# Altium schematic symbol library Supernova Connectors.SchLib: 270 symbols (part 1 of 2)
Pins are listed as number, name and electrical type; pins without a type are passive.

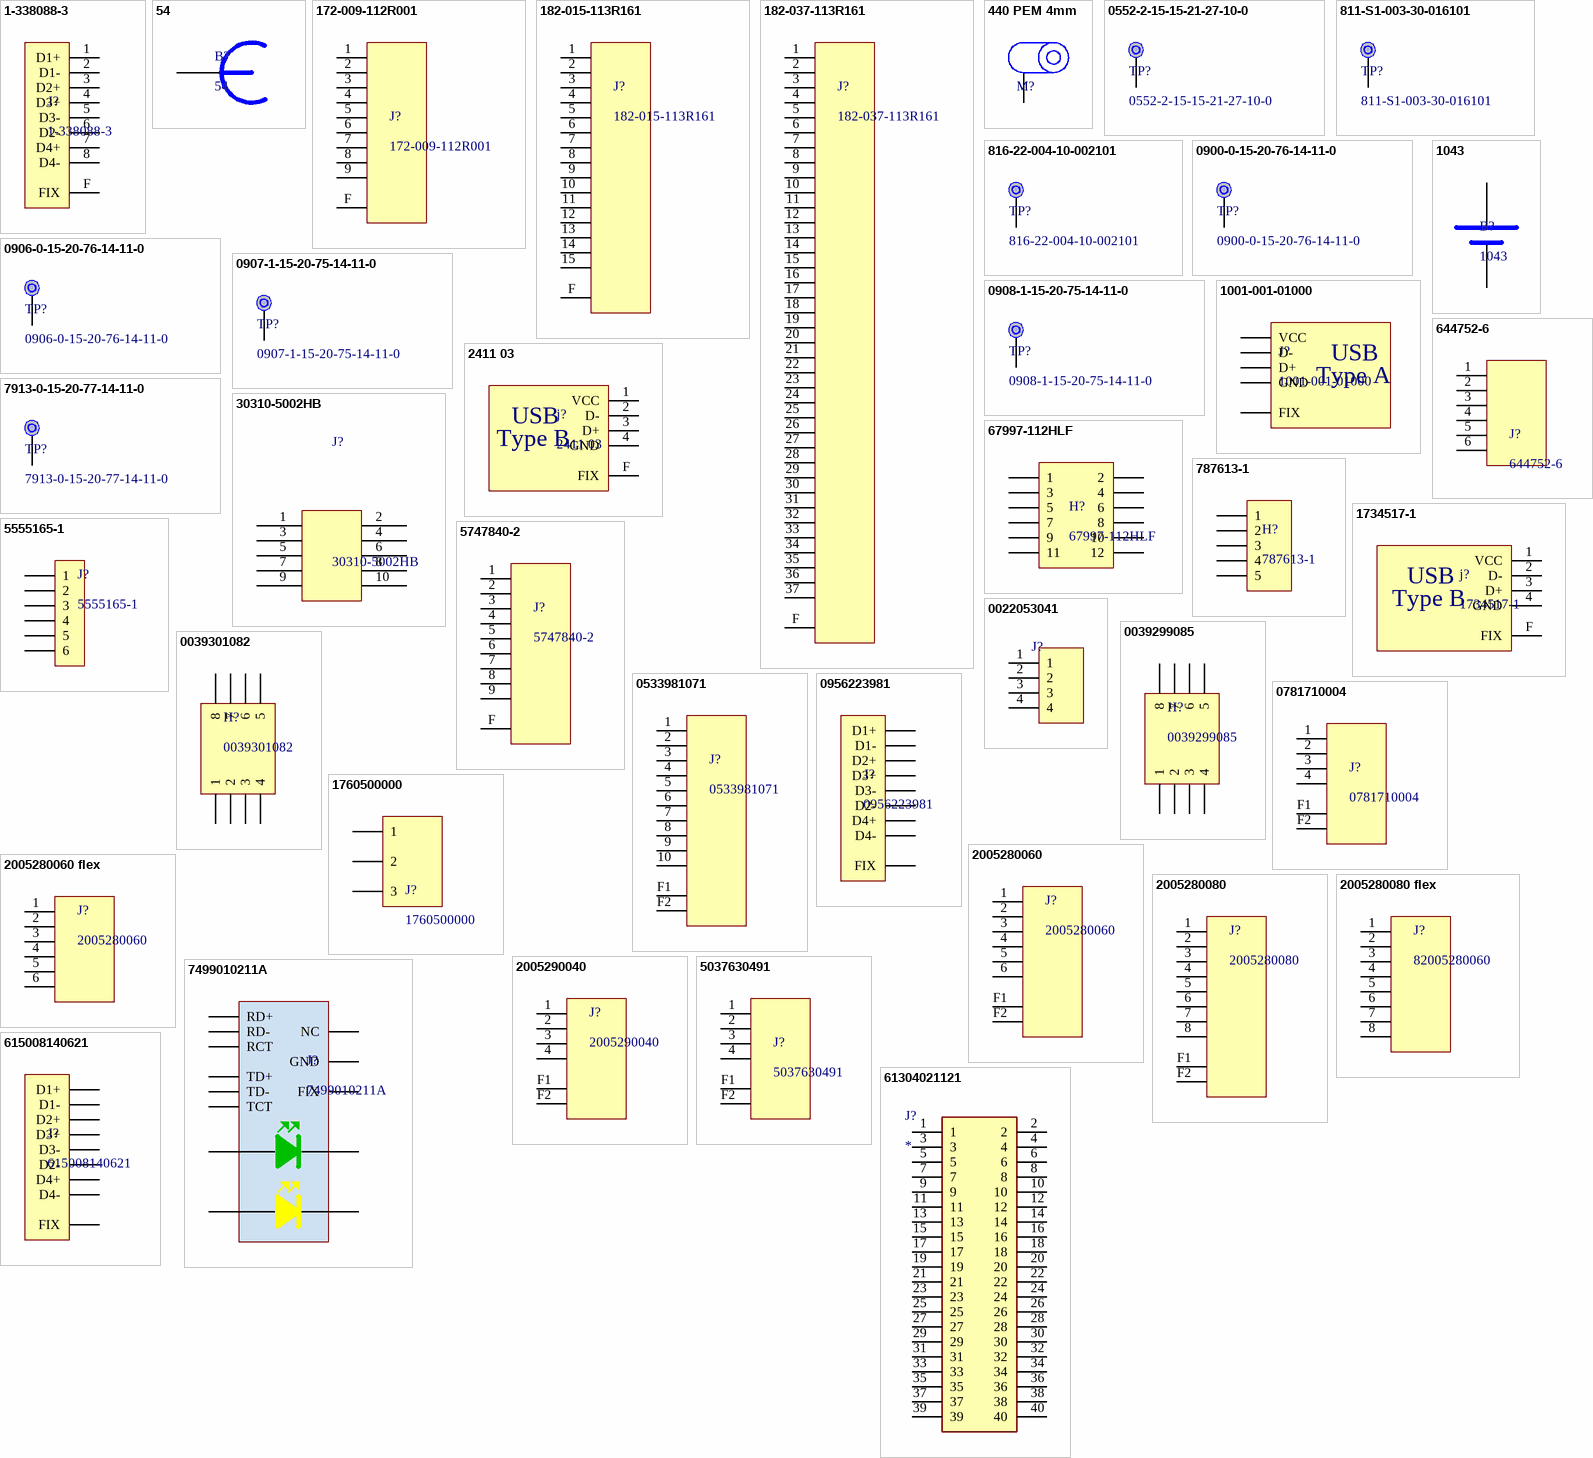
[diagram p0: symbols 1-338088-3 to 615008140621]

## 1-338088-3
designator J?
Header RJ45 No Magnetics Vertical SMD; Supplier 1: Digi-Key; Supplier Part Number 1: A99306CT-ND; Supplier 2: Digi-Key; Supplier Part Number 2: A98534CT-ND
footprint TE 1-338088-3
pins: 1 D1+, 2 D1-, 3 D2+, 4 D3+, 5 D3-, 6 D2-, 7 D4+, 8 D4-, F FIX

## 54
designator B?
Battery 18650 Clip; Supplier 1: Digi-Key; Supplier Part Number 1: 36-54-ND; Supplier 2: Mouser; Supplier Part Number 2: 534-54
footprint 18650 clip
pins: 1

## 172-009-112R001
designator J?
Header DB9 TH; System: Connector; Supplier 1: Digi-Key; Supplier Part Number 1: 1509MNA-ND; Supplier 2: Digi-Key; Supplier 3: Digi-Key; Supplier Part Number 2: AE10973-ND; Supplier Part Number 3: 1509MNEA-ND
footprint 172-009-112Ryy1
pins: 1, 2, 3 1, 4 1, 5 1, 6, 7, 8, 9, F

## 182-015-113R161
designator J?
Header DB15 TH RA; System: Connector; Supplier 1: Digi-Key; Supplier 2: Mouser; Supplier Part Number 1: 182-715ME-ND; Supplier Part Number 2: 636-182-015-113R161
footprint D-Sub-15
pins: 1, 2, 3, 4, 5, 6, 7, 8, 9, 10, 11, 12, 13, 14, 15, F

## 182-037-113R161
designator J?
Header DB37 TH RA; System: Connector; Supplier 1: Digi-Key; Supplier 2: Mouser; Supplier Part Number 1: 182-737ME-ND; Supplier Part Number 2: 636-182-037-113R161
footprint D-Sub-37
pins: 1, 2, 3, 4, 5, 6, 7, 8, 9, 10, 11, 12, 13, 14, 15, 16, 17, 18, 19, 20, 21, 22, 23, 24, 25, 26 13, 27, 28, 29, 30, 31, 32, 33, 34, 35, 36, 37, F

## 440 PEM 4mm
designator M?, comment #4-40 4mm  (value not drawn)
PEM, 440 4mm; System: Connector
footprint 440 PEM
pins: 1

## 0552-2-15-15-21-27-10-0
designator TP?
Testpoint Pin socket; System: Connector; Supplier 1: Digi-Key; Supplier Part Number 1: ED11345-ND; Supplier 2: Mouser; Supplier Part Number 2: 575-552215
footprint 0552-2-15-15-21-27-10-0 (Pin socket)
pins: 1

## 811-S1-003-30-016101
designator TP?
Testpoint Spring SMD x3; System: Connector; Supplier 1: Digi-Key; Supplier 2: Mouser; Supplier Part Number 1: 1212-1522-ND; Supplier Part Number 2: 437-811S100330016101
footprint Spring Testpoint x3 SMD
pins: 1

## 816-22-004-10-002101
designator TP?
Testpoint Spring x3; System: Connector; Supplier 1: Digi-Key; Supplier Part Number 1: ED10676-ND; Supplier 2: Digi-Key; Supplier Part Number 2: 811-S1-003-10-017101-ND
footprint Spring Testpoint x3
pins: 1

## 0900-0-15-20-76-14-11-0
designator TP?
Testpoint Spring SMD short; System: Connector; Supplier 1: Mouser; Supplier 2: Digi-Key; Supplier Part Number 1: 575-0900015207614110; Supplier Part Number 2: ED9000-ND
footprint Spring Testpoint SMD
pins: 1

## 0906-0-15-20-76-14-11-0
designator TP?
Testpoint Spring short; System: Connector; Supplier 1: Mouser; Supplier 2: Digi-Key; Supplier Part Number 1: 575-906015; Supplier Part Number 2: ED8180-ND
footprint Spring Testpoint - short
pins: 1

## 0907-1-15-20-75-14-11-0
designator TP?
Testpoint Spring SMD; System: Connector; Supplier 1: Mouser; Supplier 2: Digi-Key; Supplier Part Number 1: 575-907111; Supplier Part Number 2: ED5064-ND
footprint Spring Testpoint SMD
pins: 1

## 0908-1-15-20-75-14-11-0
designator TP?
Testpoint Spring; System: Connector; Supplier 1: Digi-Key; Supplier 2: Mouser; Supplier Part Number 1: ED90385-ND; Supplier Part Number 2: 575-0908115
footprint Spring Testpoint
pins: 1

## 1001-001-01000
designator J?
Header USB Type A; Supplier 1: Digi-Key; Supplier Part Number 1: 1175-1263-ND; Supplier 2: Digi-Key; Supplier Part Number 2: A31726-ND
footprint USB type A
pins: 1 VCC, 2 D-, 3 D+, 4 GND, F FIX
text: USB; Type A

## 1043
designator B?
Battery 18650 Holder; Supplier 1: Digi-Key; Supplier Part Number 1: 36-1043-ND; Supplier 2: Mouser; Supplier Part Number 2: 534-1043
footprint 1043
footprint 1043 - non-polar
pins: 1, 2

## 2411 03
designator j?
Header USB B TH RA; Supplier 1: Newark; Supplier Part Number 1: 31M6500; Supplier 2: Digi-Key; Supplier Part Number 2: 609-1039-ND
footprint USB-B-RA
pins: 1 VCC, 2 D-, 3 D+, 4 GND, F FIX
text: USB; Type B

## 7913-0-15-20-77-14-11-0
designator TP?
Testpoint Spring TH; System: Connector; Supplier 1: Digi-Key; Supplier Part Number 1: ED10398-ND; Supplier 2: Mouser; Supplier Part Number 2: 575-7913015207714110
footprint 7913-0-15-20-77-14-11-0 (Pin socket)
pins: 1

## 30310-5002HB
designator J?
Header 10 pin Box RA; System: Connector; Supplier 1: Digi-Key; Supplier 2: Digi-Key; Supplier Part Number 1: 3M15452-ND; Supplier Part Number 2: A33179-ND
footprint 2x5 Shrouded Box RA (2x5 Shrouded Box)
pins: 1, 2, 3, 4, 5, 6, 7, 8, 9, 10

## 67997-112HLF
designator H?
Header 6x2 TH; System: Connector; Supplier 1: Digi-Key; Supplier Part Number 1: 609-3227-ND; Supplier 2: Digi-Key; Supplier Part Number 2: SAM10851-ND
footprint 6x2 0.100" header
pins: 1, 2, 3, 4, 5, 6, 7, 8, 9, 10, 11, 12

## 644752-6
designator J?
Header MTA 6 pin; System: Connector; Supplier 1: Digi-Key; Supplier Part Number 1: A24168-ND; Supplier 2: Mouser; Supplier Part Number 2: 571-6447526
footprint 644752-6
pins: 1, 2, 3 1, 4 1, 5 1, 6

## 787613-1
designator H?
Header 5 Pin Blade Female; Supplier 1: Digi-Key; Supplier 2: Mouser; Supplier Part Number 1: 787613-1-ND; Supplier Part Number 2: 571-787613-1
footprint 787613-1
pins: 1, 2, 3, 4, 5

## 1734517-1
designator j?
Header USB B SMD; Supplier 1: Digi-Key; Supplier Part Number 1: A111053CT-ND; Supplier 2: Mouser; Supplier Part Number 2: 571-1734517-1
footprint TE 1734517-1
pins: 1 VCC, 2 D-, 3 D+, 4 GND, F FIX
text: USB; Type B

## 5555165-1
designator J?
Header RJ11 Right angle; Supplier 1: Digi-Key; Supplier Part Number 1: A31422-ND; Supplier 2: Digi-Key; Supplier Part Number 2: AE10383-ND
footprint 5555165-1
pins: 1, 2, 3, 4, 5, 6

## 5747840-2
designator J?
Header DB9 TH RA; Supplier 1: Digi-Key; Supplier Part Number 1: A32090-ND; Supplier 2: Mouser; Supplier Part Number 2: 571-5747840-2; System: *
footprint 5747840-2
pins: 1, 2, 3 1, 4 1, 5 1, 6, 7, 8, 9, F

## 0022053041
designator J?  (value not drawn)
Header 4POS .100 R/A TIN; System: Connector; Supplier 1: Digi-Key; Supplier 2: Digi-Key; Supplier Part Number 1: WM4302-ND; Supplier Part Number 2: WM10159-ND
footprint 4POS SMBUS Molex Inc. (CONN HEADER 4POS .100 R/A TIN 0022053041)
pins: 1, 2, 3, 4

## 0039299085
designator H?
Header 4x2 TH 4.2mm pitch; System: Connector; Supplier 1: Digi-Key; Supplier 2: Digi-Key; Supplier Part Number 1: WM2844-ND; Supplier Part Number 2: 23-0039299084-ND
footprint 0039299085
pins: 1, 2, 3, 4, 5, 6, 7, 8

## 0039301082
designator H?
Header 4x2 TH RA 4.2mm pitch; System: Connector; Supplier 1: Digi-Key; Supplier 2: Digi-Key; Supplier Part Number 1: WM21366-ND; Supplier Part Number 2: WM1366-ND
footprint 0039301082
pins: 1, 2, 3, 4, 5, 6, 7, 8

## 0533981071
designator J?
Header PicoBlade 10-Pin; System: Connector; Supplier 1: Digi-Key; Supplier 2: Mouser; Supplier Part Number 1: WM7614CT-ND; Supplier Part Number 2: 538-53398-1071
footprint 0533981071
pins: 1, 2, 3, 4, 5, 6, 7, 8, 9, 10, F1, F2

## 0781710004
designator J?
Header Pico-EZMate 4 pin; System: Connector; Supplier 1: Digi-Key; Supplier 2: Mouser; Supplier Part Number 2: 538-78171-0004; Supplier Part Number 1: WM4460CT-ND
footprint 0781710004
pins: 1, 2, 3 1, 4 1, F1 1, F2 1

## 0956223981
designator J?
Header RJ45 No Magnetics RA TH Tab=Down; Supplier 1: Digi-Key; Supplier Part Number 1: WM3653-ND; Supplier 2: Digi-Key; Supplier Part Number 2: AE10387-ND
footprint 956223981
pins: 1 D1+, 2 D1-, 3 D2+, 4 D3+, 5 D3-, 6 D2-, 7 D4+, 8 D4-, F FIX

## 1760500000
designator J?
Header Screw terminal 3 pins; Supplier 1: Digi-Key; Supplier 2: Digi-Key; Supplier Part Number 1: 281-2882-ND; Supplier Part Number 2: ED1976-ND
footprint ED500/3DS
pins: 1, 2, 3

## 2005280060
designator J?
Header Flex Connector 6 pin; top side; notched; System: Connector; Supplier 1: Digi-Key; Supplier Part Number 1: WM24188CT-ND; Supplier 2: Mouser; Supplier Part Number 2: 538-200528-0060
footprint 2005280060
pins: 1, 2 1, 3 1, 4 1, 5 2, 6 3, F1, F2

## 2005280060 flex
designator J?, comment 2005280060  (no BOM)
Flex Connector 4 pin; top side; notched; System: Connector
footprint 2005280060 mating flex
pins: 1, 2 1, 3 1, 4 1, 5 2, 6 3

## 2005280080
designator J?
Header Flex Connector 8 pin; top side; notched; System: Connector; Supplier 1: Mouser; Supplier Part Number 1: 538-200528-0080; Supplier 2: Digi-Key; Supplier Part Number 2: WM17815CT-ND
footprint 2005280080
pins: 1, 2 1, 3 1, 4 1, 5 2, 6 3, 7 2, 8 3, F1, F2

## 2005280080 flex
designator J?, comment 82005280060  (no BOM)
Flex Connector 8 pin; notched; System: Connector
footprint 2005280080 mating flex - SM Defined
footprint 2005280080 mating flex
pins: 1, 2 1, 3 1, 4 1, 5 2, 6 3, 7 2, 8 3

## 2005290040
designator J?
Header Flex Connector 4 pin; top side; notched; Supplier 1: Digi-Key; Supplier 2: Mouser; Supplier Part Number 1: WM24189CT-ND; Supplier Part Number 2: 538-200529-0040; System: Connector
footprint 2005290040
pins: 1, 2 1, 3 1, 4 1, F1, F2

## 5037630491
designator J?
Header Pico-Lock 4 pin; System: Connector; Supplier 1: Digi-Key; Supplier 2: Mouser; Supplier Part Number 1: WM10655CT-ND; Supplier Part Number 2: 538-503763-0491
footprint 5037630491
pins: 1, 2, 3 1, 4 1, F1, F2

## 7499010211A
designator J?
Header RJ45 with Magnetics RA TH Tab=Down; Supplier 1: Digi-Key; Supplier 2: Digi-Key; Supplier Part Number 1: 732-4506-5-ND; Supplier Part Number 2: 553-1619-5-ND
footprint 7499010211A
pins: 1 TD+, 2 TD-, 3 RD+, 4 TCT, 5 RCT, 6 RD-, 7 NC, 8 GND, 9, 10, 11, 12, F FIX

## 61304021121
designator J?
Connector; Manufacturer_Name: Wurth Elektronik; Manufacturer_Part_Number: 61304021121; Datasheet Link: https://katalog.we-online.com/em/datasheet/6130xx21121.pdf; Height: 8.69mm; Mouser Part Number: 710-61304021121; Mouser Price/Stock: https://www.mouser.co.uk/ProductDetail/Wurth-Elektronik/61304021121?qs=PhR8RmCirEYWKI5WqdDUyg%3D%3D
footprint HDRV40W64P254X254_2X20_5080X508X869P
pins: 1, 2, 3, 4, 5, 6, 7, 8, 9, 10, 11, 12, 13, 14, 15, 16, 17, 18, 19, 20, 21, 22, 23, 24, 25, 26, 27, 28, 29, 30, 31, 32, 33, 34, 35, 36, 37, 38, 39, 40

## 615008140621
designator J?
Header RJ45 No Magnetics RA TH Tab=Up; Supplier 1: Digi-Key; Supplier Part Number 1: 732-2742-ND; Supplier 2: Digi-Key; Supplier Part Number 2: RJHSE-5480-ND
footprint RJ45 No Mag
pins: 1 D1+, 2 D1-, 3 D2+, 4 D3+, 5 D3-, 6 D2-, 7 D4+, 8 D4-, F FIX

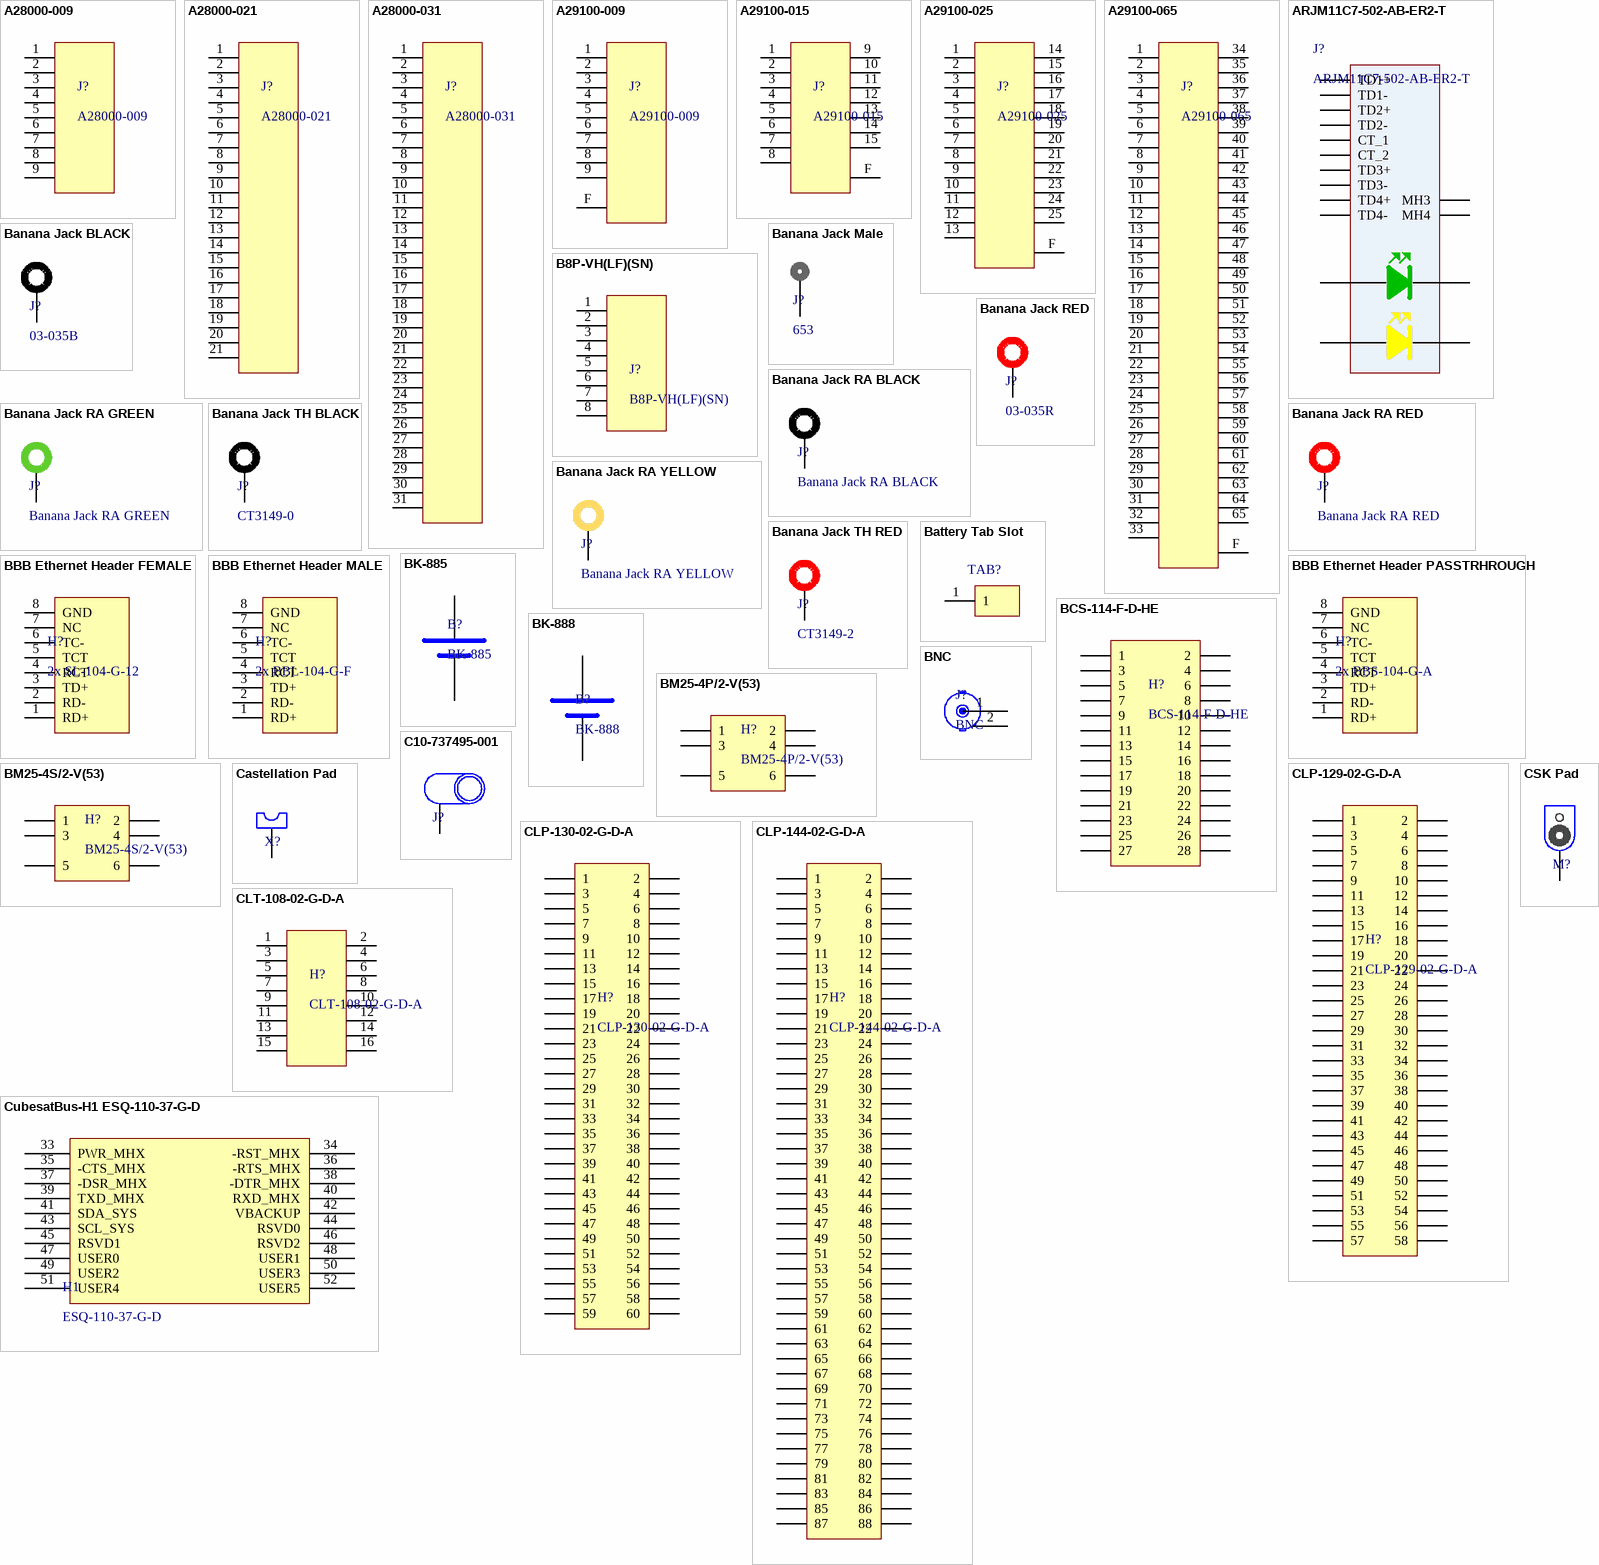
[diagram p1: symbols A28000-009 to CubesatBus-H1 ESQ-110-37-G-D]

## A28000-009
designator J?
Connector Omnetics Bi-Lobe 9 pins
pins: 1, 2, 3 1, 4 1, 5 1, 6 1, 7 1, 8 1, 9 1

## A28000-021
designator J?
Connector Omnetics Bi-Lobe 21 pins
pins: 1, 2, 3 1, 4 1, 5 1, 6 1, 7 1, 8 1, 9 1, 10 1, 11 1, 12 1, 13 1, 14 1, 15 2, 16 3, 17 4, 18 5, 19 6, 20 7, 21 8

## A28000-031
designator J?
Connector Omnetics Bi-Lobe 31 pins
pins: 1, 2, 3 1, 4 1, 5 1, 6 1, 7 1, 8 1, 9 1, 10 1, 11 1, 12 1, 13 1, 14 1, 15 2, 16 3, 17 4, 18 5, 19 6, 20 7, 21 8, 22 9, 23 10, 24 11, 25 12, 26 13, 27 14, 28 15, 29 16, 30 17, 31 18

## A29100-009
designator J?
Header Omnetics A29100-009; System: Connector; Manufacturer 1: Omnetics; Manufacturer Part Number 1: A29100-009; Supplier 1: Omnetics; Supplier Part Number 1: A29100-009; Supplier Pricing 1: 110.00
footprint A29100-009
pins: 1, 2, 3 1, 4 1, 5 1, 6, 7, 8, 9, F

## A29100-015
designator J?
Header Omnetics A29100-015; System: Connector; Manufacturer 1: Omnetics; Manufacturer Part Number 1: A29100-015; Supplier 1: Omnetics; Supplier Part Number 1: A29100-015; Supplier Pricing 1: 110.00
footprint A29100-015
pins: 1, 2, 3 1, 4 1, 5 1, 6, 7, 8, 9, 10, 11, 12, 13, 14, 15, F

## A29100-025
designator J?
Header Omnetics A29100-025; System: Connector; Manufacturer 1: Omnetics; Manufacturer Part Number 1: A29100-025; Supplier 1: Omnetics; Supplier Part Number 1: A29100-025; Supplier Pricing 1: 110.00
footprint A29100-025
pins: 1, 2, 3 1, 4 1, 5 1, 6, 7, 8, 9, 10, 11, 12, 13, 14, 15, 16, 17, 18, 19, 20, 21, 22, 23, 24, 25, F

## A29100-065
designator J?
Header Omnetics A29100-065; System: Connector; Manufacturer 1: Omnetics; Manufacturer Part Number 1: A29100-065; Supplier 1: Omnetics; Supplier Part Number 1: A29100-065; Supplier Pricing 1: 110.00
footprint A29100-065
pins: 1, 2, 3 1, 4 1, 5 1, 6, 7, 8, 9, 10, 11, 12, 13, 14, 15, 16, 17, 18, 19, 20, 21, 22, 23, 24, 25, 26, 27, 28, 29, 30, 31, 32, 33, 34, 35, 36, 37, 38, 39, 40, 41, 42, 43, 44, 45, 46, 47, 48, 49, 50, 51, 52, 53, 54, 55, 56, 57, 58, 59, 60, 61, 62, 63, 64, 65, F

## ARJM11C7-502-AB-ER2-T
designator J?
RJ45 JACK W/MAG 1X1 1000BASE-T; Manufacturer_Name: ABRACON; Datasheet Link: https://abracon.com/Magnetics/ARJM11.pdf; Height: 13.7mm; Manufacturer_Part_Number: ARJM11C7-502-AB-ER2-T; Mouser Part Number: 815-RJM11C7502ABER2T; Mouser Price/Stock: https://www.mouser.co.uk/ProductDetail/ABRACON/ARJM11C7-502-AB-ER2-T?qs=YCa%2FAAYMW01Li4L1TO4qtw%3D%3D; Arrow Part Number: ARJM11C7-502-AB-ER2-T; Arrow Price/Stock: https://www.arrow.com/en/products/arjm11c7-502-ab-er2-t/abracon?region=nac; Supplier 1: Digi-Key; Supplier 2: Mouser; Supplier Part Number 1: 535-14130-6-ND; Supplier Part Number 2: 815-RJM11C7502ABER2T
footprint ARJM11C7502ABER2T
pins: MH3, MH4, P1 TD1+, P2 TD1-, P3 TD2+, P4 TD2-, P5 CT_1, P6 CT_2, P7 TD3+, P8 TD3-, P9 TD4+, P10 TD4-, P11, P12, P13, P14

## B8P-VH(LF)(SN)
designator J?
Header VH 8 pin; System: Connector; Supplier 1: Digi-Key; Supplier Part Number 1: 455-1645-ND
footprint B8P-VH(LF)(SN)
pins: 1, 2, 3 1, 4 1, 5 1, 6, 7, 8

## Banana Jack BLACK
designator J?, comment 03-035B
Banana Jack Vertical BLACK; Manufacturer 1: Jameco Benchpro; Supplier 1: Jameco; Supplier Part Number 1: 2244439; Manufacturer Part Number 1: 03-035B; Supplier Pricing 1: 1.19
footprint Banana Jack BLACK
pins: 1

## Banana Jack Male
designator J?, comment 653
Banana Jack MALE; Supplier 1: Digi-Key; Supplier 2: Mouser; Supplier Part Number 1: 36-653-ND; Supplier Part Number 2: 534-653
footprint Banana Jack MALE
pins: 1

## Banana Jack RA BLACK
designator J?
Supplier 1: Digi-Key; Supplier Part Number 1: BKCT3151SP-0-ND; Supplier 2: Mouser; Supplier Part Number 2: 510-CT3151SP-0
footprint BANANA RA BLACK
pins: 1

## Banana Jack RA GREEN
designator J?
Supplier 1: Digi-Key; Supplier Part Number 1: BKCT3151SP-5-ND
footprint BANANA RA GREEN
pins: 1

## Banana Jack RA RED
designator J?
Supplier 1: Digi-Key; Supplier Part Number 1: BKCT3151SP-2-ND; Supplier 2: Mouser; Supplier Part Number 2: 510-CT3151SP-2
footprint BANANA RA RED
pins: 1

## Banana Jack RA YELLOW
designator J?
Supplier 1: Digi-Key; Supplier Part Number 1: BKCT3151SP-4-ND
footprint BANANA RA YELLOW
pins: 1

## Banana Jack RED
designator J?, comment 03-035R
Banana Jack Vertical RED; Manufacturer 1: Jameco Benchpro; Supplier 1: Jameco; Supplier Part Number 1: 2244447; Manufacturer Part Number 1: 03-035R; Supplier Pricing 1: 1.19
footprint Banana Jack RED
pins: 1

## Banana Jack TH BLACK
designator J?, comment CT3149-0
Banana Jack Vertical TH BLACK; Supplier 1: Digi-Key; Supplier Part Number 1: BKCT3149-0-ND; Supplier 2: Mouser; Supplier Part Number 2: 510-CT3149-0
footprint Banana Jack TH BLACK
pins: 1

## Banana Jack TH RED
designator J?, comment CT3149-2
Banana Jack Vertical TH RED; Supplier 1: Digi-Key; Supplier Part Number 1: BKCT3149-2-ND; Supplier 2: Mouser; Supplier Part Number 2: 510-CT3149-2
footprint Banana Jack TH RED
pins: 1

## Battery Tab Slot
designator TAB?, comment Battery Tab Pad  (value not drawn)  (no BOM)
Battery tab slot
footprint Battery Tab Pad (Slot - 1mm x 6mm)
footprint Battery Tab Slot (Slot - 1.5mm x 7.25mm)
footprint Battery Tab Pad with slot (Slot - 1mm x 6mm)
pins: 1

## BBB Ethernet Header FEMALE
designator H?, comment 2x SL-104-G-12
Header for BBB Ethernet; System: Connector; Quantity: 2; Supplier 1: Digi-Key; Supplier 2: Newark; Supplier Part Number 1: SAM1104-08-ND; Supplier Part Number 2: 11P6617
footprint Ethernet Header FEMALE
pins: 1 RD+, 2 RD-, 3 TD+, 4 RCT, 5 TCT, 6 TC-, 7 NC, 8 GND

## BBB Ethernet Header MALE
designator H?, comment 2x BBL-104-G-F
Header for BBB Ethernet; System: Connector; Supplier 1: Newark; Supplier 2: Digi-Key; Supplier Part Number 1: 11P3037; Supplier Part Number 2: SAM1001-08-ND
footprint Ethernet Header MALE
pins: 1 RD+, 2 RD-, 3 TD+, 4 RCT, 5 TCT, 6 TC-, 7 NC, 8 GND

## BBB Ethernet Header PASSTRHROUGH
designator H?, comment 2x BBS-104-G-A
Header for BBB Ethernet; System: Connector; Supplier 1: Digi-Key; Supplier 2: Newark; Supplier Part Number 1: SAM1004-08-ND; Supplier Part Number 2: 11P3149
footprint Ethernet Header PASSTHROUGH
pins: 1 RD+, 2 RD-, 3 TD+, 4 RCT, 5 TCT, 6 TC-, 7 NC, 8 GND

## BCS-114-F-D-HE
designator H?
Header 14x2 TH RA; System: Connector; Supplier 1: Digi-Key; Supplier Part Number 1: BCS-114-F-D-HE-ND; Supplier 2: Digi-Key; Supplier 3: Newark; Supplier 4: Digi-Key; Supplier Part Number 2: BCS-114-LM-D-HE-ND; Supplier Part Number 3: 87P2270; Supplier Part Number 4: BCS-114-S-D-HE-ND
footprint BCS-114-F-D-HE
pins: 1, 2, 3, 4, 5, 6, 7, 8, 9, 10, 11, 12, 13, 14, 15, 16, 17, 18, 19, 20, 21, 22, 23, 24, 25, 26, 27, 28

## BK-885
designator B?
Battery 1216 Holder; Supplier 1: Digi-Key; Supplier Part Number 1: BK-885-ND; Supplier 2: Digi-Key; Supplier 3: Digi-Key; Supplier Part Number 2: BK-885-CT-ND; Supplier Part Number 3: 36-3000CT-ND
footprint 1216 Battery Holder
pins: 1, 2

## BK-888
designator B?
Battery 20xx Holder; Supplier 1: Digi-Key; Supplier 2: Digi-Key; Supplier Part Number 1: BK-888-ND; Supplier Part Number 2: 36-3003-ND
footprint BK-888
pins: 1, 2

## BM25-4P/2-V(53)
designator H?
Header 6 pin micro; 2 power; 4 signal; System: Connector; Supplier 1: Digi-Key; Supplier 2: Mouser; Supplier Part Number 2: 798-BM25-4P/2-V53; Supplier Part Number 1: H124948CT-ND
footprint BM25-4P/2-V(53)
pins: 1, 2, 3, 4, 5, 6

## BM25-4S/2-V(53)
designator H?
Header 6 pin micro; 2 power; 4 signal; System: Connector; Supplier 1: Digi-Key; Supplier 2: Mouser; Supplier Part Number 1: H124947CT-ND; Supplier Part Number 2: 798-BM25-4S/2-V53
footprint BM25-4S/2-V(53)
pins: 1, 2, 3, 4, 5, 6

## BNC
designator J?
Header BNC Board Edge; Supplier 1: Digi-Key; Supplier 2: Digi-Key; Supplier Part Number 1: WM5524-ND; Supplier Part Number 2: WM5281-ND
footprint 5414373-1 (BNC Connector)
pins: 1 7, 2 7

## C10-737495-001
designator J?  (value not drawn)
Radsert 3.5mm female SMD; Supplier 1: Digi-Key; Supplier 2: Mouser; Supplier Part Number 1: 10-737495-001-ND; Supplier Part Number 2: 654-10-737495-001
footprint C10-737495-001
pins: 1

## Castellation Pad
designator X?  (value not drawn)  (no BOM)
Castellation Pad; System: Connector
footprint castellation pad 50mil
pins: 1

## CLP-129-02-G-D-A
designator H?
Header 58 Pin CLP; System: Connector; Supplier 1: Digi-Key; Supplier 2: Digi-Key; Supplier 3: Digi-Key; Supplier Part Number 1: CLP-129-02-G-D-A-ND; Supplier Part Number 2: CLP-129-02-G-D-A-K-ND; Supplier Part Number 3: CLP-129-02-L-D-A-ND
footprint CLP-129-02-G-D-A
pins: 1, 2, 3, 4, 5, 6, 7, 8, 9, 10, 11, 12, 13, 14, 15, 16, 17, 18, 19, 20, 21, 22, 23, 24, 25, 26, 27, 28, 29, 30, 31, 32, 33, 34, 35, 36, 37, 38, 39, 40, 41, 42, 43, 44, 45, 46, 47, 48, 49, 50, 51, 52, 53, 54, 55, 56, 57, 58

## CLP-130-02-G-D-A
designator H?
Header 60 Pin CLP; System: Connector; Supplier 1: Digi-Key; Supplier 2: Mouser; Supplier Part Number 1: SAM12494-ND; Supplier Part Number 2: 200-CLP13002GDA
footprint CLP-130-02-G-D-A
pins: 1, 2, 3, 4, 5, 6, 7, 8, 9, 10, 11, 12, 13, 14, 15, 16, 17, 18, 19, 20, 21, 22, 23, 24, 25, 26, 27, 28, 29, 30, 31, 32, 33, 34, 35, 36, 37, 38, 39, 40, 41, 42, 43, 44, 45, 46, 47, 48, 49, 50, 51, 52, 53, 54, 55, 56, 57, 58, 59, 60

## CLP-144-02-G-D-A
designator H?
Header 88 Pin CLP; System: Connector; Supplier 1: Digi-Key; Supplier 2: Digi-Key; Supplier Part Number 1: CLP-144-02-G-D-A-ND; Supplier Part Number 2: CLP-144-02-F-D-A-ND
footprint CLP-144-02-G-D-A
pins: 1, 2, 3, 4, 5, 6, 7, 8, 9, 10, 11, 12, 13, 14, 15, 16, 17, 18, 19, 20, 21, 22, 23, 24, 25, 26, 27, 28, 29, 30, 31, 32, 33, 34, 35, 36, 37, 38, 39, 40, 41, 42, 43, 44, 45, 46, 47, 48, 49, 50, 51, 52, 53, 54, 55, 56, 57, 58, 59, 60, 61, 62, 63, 64, 65, 66, 67, 68, 69, 70, 71, 72, 73, 74, 75, 76, 77, 78, 79, 80, 81, 82, 83, 84, 85, 86, 87, 88

## CLT-108-02-G-D-A
designator H?
Header 8x2 Thru Board; System: Connector; Supplier 1: Digi-Key; Supplier 2: Digi-Key; Supplier 3: Digi-Key; Supplier Part Number 1: SAM11024-ND; Supplier Part Number 2: CLT-108-02-G-D-A-K-ND; Supplier Part Number 3: CLT-108-02-G-D-A-P-ND
footprint CLT-108-02-G-D-A
pins: 1, 2, 3, 4, 5, 6, 7, 8, 9, 10, 11 1, 12, 13, 14, 15, 16

## CSK Pad
designator M?, comment CSK Mouting Hole M3  (value not drawn)  (no BOM)
Mounting Hole CSK
footprint CSK Pad
footprint CSK Odd Pad
footprint CSK Pad 100mil dual
footprint CSK Pad 150mil dual
pins: 1

## CubesatBus-H1 ESQ-110-37-G-D
designator H1, comment ESQ-110-37-G-D
Header PC/104 20-pin; System: Connector; Supplier 1: Digi-Key; Supplier Part Number 1: ESQ-110-37-G-D-ND; Supplier 2: Newark; Supplier Part Number 2: 91P9697
footprint ESQ-110-37-G-D 33-52 (ESQ-126-37-G-D Samtech 52-pin connector)
pins: 33 PWR_MHX, 34 -RST_MHX, 35 -CTS_MHX, 36 -RTS_MHX, 37 -DSR_MHX, 38 -DTR_MHX, 39 TXD_MHX, 40 RXD_MHX, 41 SDA_SYS, 42 VBACKUP, 43 SCL_SYS, 44 RSVD0, 45 RSVD1, 46 RSVD2, 47 USER0, 48 USER1, 49 USER2, 50 USER3, 51 USER4, 52 USER5

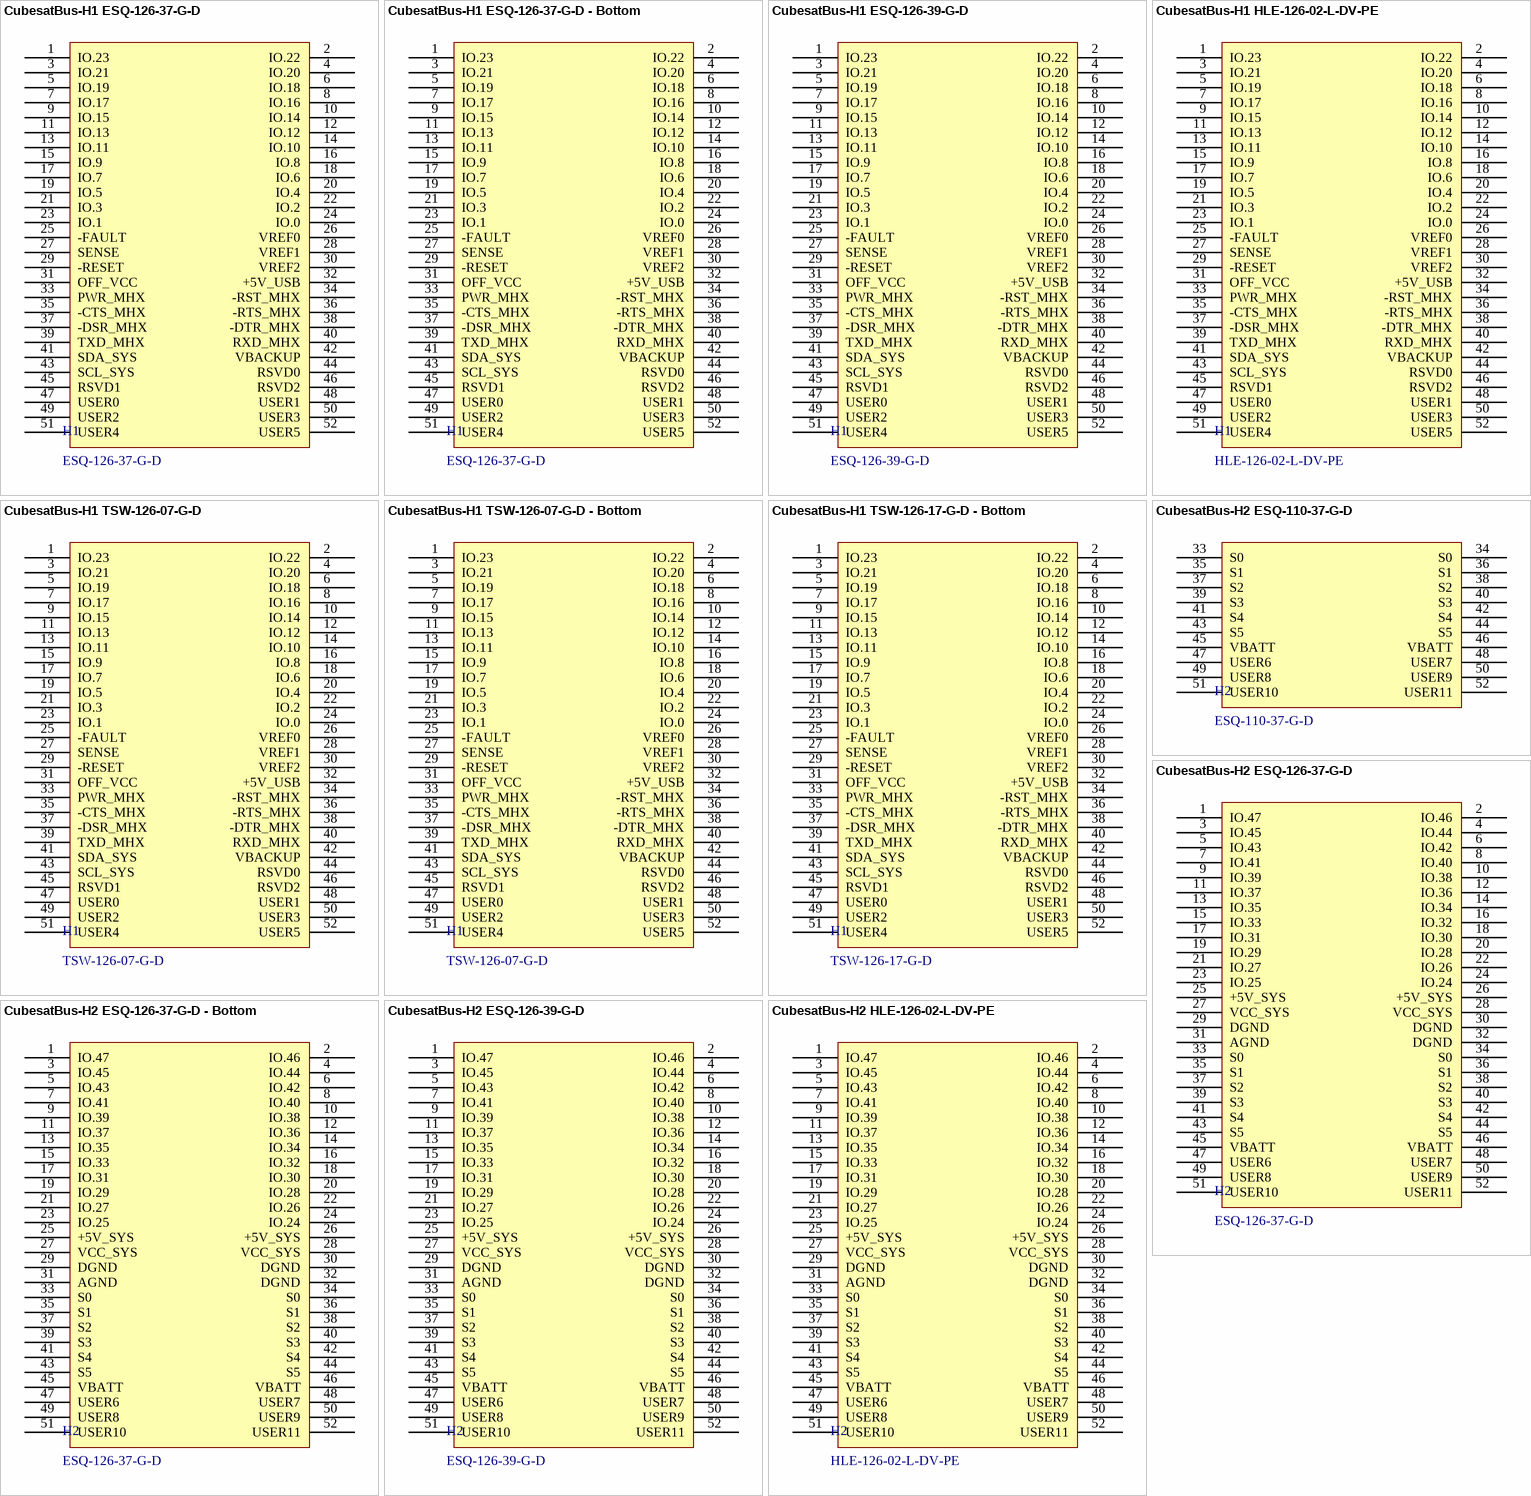
[diagram p2: symbols CubesatBus-H1 ESQ-126-37-G-D to CubesatBus-H2 HLE-126-02-L-DV-PE]

## CubesatBus-H1 ESQ-126-37-G-D
designator H1, comment ESQ-126-37-G-D
Header PC/104 52-pin; System: Connector; Supplier 1: Digi-Key; Supplier Part Number 1: SAM9323-ND; Supplier 2: Newark; Supplier Part Number 2: 92P1369
footprint ESQ-126-37-G-D (ESQ-126-37-G-D Samtech 52-pin connector)
pins: 1 IO.23, 2 IO.22, 3 IO.21, 4 IO.20, 5 IO.19, 6 IO.18, 7 IO.17, 8 IO.16, 9 IO.15, 10 IO.14, 11 IO.13, 12 IO.12, 13 IO.11, 14 IO.10, 15 IO.9, 16 IO.8, 17 IO.7, 18 IO.6, 19 IO.5, 20 IO.4, 21 IO.3, 22 IO.2, 23 IO.1, 24 IO.0, 25 -FAULT, 26 VREF0, 27 SENSE, 28 VREF1, 29 -RESET, 30 VREF2, 31 OFF_VCC, 32 +5V_USB, 33 PWR_MHX, 34 -RST_MHX, 35 -CTS_MHX, 36 -RTS_MHX, 37 -DSR_MHX, 38 -DTR_MHX, 39 TXD_MHX, 40 RXD_MHX, 41 SDA_SYS, 42 VBACKUP, 43 SCL_SYS, 44 RSVD0, 45 RSVD1, 46 RSVD2, 47 USER0, 48 USER1, 49 USER2, 50 USER3, 51 USER4, 52 USER5

## CubesatBus-H1 ESQ-126-37-G-D - Bottom
designator H1, comment ESQ-126-37-G-D
Header PC/104 52-pin; System: Connector; Supplier 1: Digi-Key; Supplier Part Number 1: SAM9323-ND; Supplier 2: Newark; Supplier Part Number 2: 92P1369
footprint ESQ-126-37-G-D - bottom (ESQ-126-37-G-D Samtech 52-pin connector)
pins: 1 IO.23, 2 IO.22, 3 IO.21, 4 IO.20, 5 IO.19, 6 IO.18, 7 IO.17, 8 IO.16, 9 IO.15, 10 IO.14, 11 IO.13, 12 IO.12, 13 IO.11, 14 IO.10, 15 IO.9, 16 IO.8, 17 IO.7, 18 IO.6, 19 IO.5, 20 IO.4, 21 IO.3, 22 IO.2, 23 IO.1, 24 IO.0, 25 -FAULT, 26 VREF0, 27 SENSE, 28 VREF1, 29 -RESET, 30 VREF2, 31 OFF_VCC, 32 +5V_USB, 33 PWR_MHX, 34 -RST_MHX, 35 -CTS_MHX, 36 -RTS_MHX, 37 -DSR_MHX, 38 -DTR_MHX, 39 TXD_MHX, 40 RXD_MHX, 41 SDA_SYS, 42 VBACKUP, 43 SCL_SYS, 44 RSVD0, 45 RSVD1, 46 RSVD2, 47 USER0, 48 USER1, 49 USER2, 50 USER3, 51 USER4, 52 USER5

## CubesatBus-H1 ESQ-126-39-G-D
designator H1, comment ESQ-126-39-G-D
Header PC/104 52-pin; System: Connector; Supplier 1: Digi-Key; Supplier Part Number 1: SAM10462-ND; Supplier 2: Newark; Supplier Part Number 2: 92P1376
footprint ESQ-126-39-G-D (ESQ-126-39-G-D Samtech 52-pin connector)
pins: 1 IO.23, 2 IO.22, 3 IO.21, 4 IO.20, 5 IO.19, 6 IO.18, 7 IO.17, 8 IO.16, 9 IO.15, 10 IO.14, 11 IO.13, 12 IO.12, 13 IO.11, 14 IO.10, 15 IO.9, 16 IO.8, 17 IO.7, 18 IO.6, 19 IO.5, 20 IO.4, 21 IO.3, 22 IO.2, 23 IO.1, 24 IO.0, 25 -FAULT, 26 VREF0, 27 SENSE, 28 VREF1, 29 -RESET, 30 VREF2, 31 OFF_VCC, 32 +5V_USB, 33 PWR_MHX, 34 -RST_MHX, 35 -CTS_MHX, 36 -RTS_MHX, 37 -DSR_MHX, 38 -DTR_MHX, 39 TXD_MHX, 40 RXD_MHX, 41 SDA_SYS, 42 VBACKUP, 43 SCL_SYS, 44 RSVD0, 45 RSVD1, 46 RSVD2, 47 USER0, 48 USER1, 49 USER2, 50 USER3, 51 USER4, 52 USER5

## CubesatBus-H1 HLE-126-02-L-DV-PE
designator H1, comment HLE-126-02-L-DV-PE
Header PC/104 52-pin; System: Connector; Supplier 1: Digi-Key; Supplier Part Number 1: HLE-126-02-L-DV-PE-ND; Supplier 2: Newark; Supplier Part Number 2: 84T4155
footprint HLE-126-02-L-DV-PE
pins: 1 IO.23, 2 IO.22, 3 IO.21, 4 IO.20, 5 IO.19, 6 IO.18, 7 IO.17, 8 IO.16, 9 IO.15, 10 IO.14, 11 IO.13, 12 IO.12, 13 IO.11, 14 IO.10, 15 IO.9, 16 IO.8, 17 IO.7, 18 IO.6, 19 IO.5, 20 IO.4, 21 IO.3, 22 IO.2, 23 IO.1, 24 IO.0, 25 -FAULT, 26 VREF0, 27 SENSE, 28 VREF1, 29 -RESET, 30 VREF2, 31 OFF_VCC, 32 +5V_USB, 33 PWR_MHX, 34 -RST_MHX, 35 -CTS_MHX, 36 -RTS_MHX, 37 -DSR_MHX, 38 -DTR_MHX, 39 TXD_MHX, 40 RXD_MHX, 41 SDA_SYS, 42 VBACKUP, 43 SCL_SYS, 44 RSVD0, 45 RSVD1, 46 RSVD2, 47 USER0, 48 USER1, 49 USER2, 50 USER3, 51 USER4, 52 USER5

## CubesatBus-H1 TSW-126-07-G-D
designator H1, comment TSW-126-07-G-D
Header PC/104 52-pin; System: Connector; Supplier 1: Digi-Key; Supplier Part Number 1: SAM1028-26-ND; Supplier 2: Newark; Supplier 3: Digi-Key; Supplier Part Number 2: 12P2847; Supplier Part Number 3: HTSW-126-07-G-D-ND
footprint TSW-126-07-G-D (TSW-126-07-G-D Samtech 52-pin connector)
pins: 1 IO.23, 2 IO.22, 3 IO.21, 4 IO.20, 5 IO.19, 6 IO.18, 7 IO.17, 8 IO.16, 9 IO.15, 10 IO.14, 11 IO.13, 12 IO.12, 13 IO.11, 14 IO.10, 15 IO.9, 16 IO.8, 17 IO.7, 18 IO.6, 19 IO.5, 20 IO.4, 21 IO.3, 22 IO.2, 23 IO.1, 24 IO.0, 25 -FAULT, 26 VREF0, 27 SENSE, 28 VREF1, 29 -RESET, 30 VREF2, 31 OFF_VCC, 32 +5V_USB, 33 PWR_MHX, 34 -RST_MHX, 35 -CTS_MHX, 36 -RTS_MHX, 37 -DSR_MHX, 38 -DTR_MHX, 39 TXD_MHX, 40 RXD_MHX, 41 SDA_SYS, 42 VBACKUP, 43 SCL_SYS, 44 RSVD0, 45 RSVD1, 46 RSVD2, 47 USER0, 48 USER1, 49 USER2, 50 USER3, 51 USER4, 52 USER5

## CubesatBus-H1 TSW-126-07-G-D - Bottom
designator H1, comment TSW-126-07-G-D
Header PC/104 52-pin; System: Connector; Supplier 1: Digi-Key; Supplier Part Number 1: SAM1028-26-ND; Supplier 2: Newark; Supplier 3: Digi-Key; Supplier Part Number 2: 12P2847; Supplier Part Number 3: HTSW-126-07-G-D-ND
footprint TSW-126-07-G-D - BOTTOM (TSW-126-07-G-D Samtech 52-pin connector)
pins: 1 IO.23, 2 IO.22, 3 IO.21, 4 IO.20, 5 IO.19, 6 IO.18, 7 IO.17, 8 IO.16, 9 IO.15, 10 IO.14, 11 IO.13, 12 IO.12, 13 IO.11, 14 IO.10, 15 IO.9, 16 IO.8, 17 IO.7, 18 IO.6, 19 IO.5, 20 IO.4, 21 IO.3, 22 IO.2, 23 IO.1, 24 IO.0, 25 -FAULT, 26 VREF0, 27 SENSE, 28 VREF1, 29 -RESET, 30 VREF2, 31 OFF_VCC, 32 +5V_USB, 33 PWR_MHX, 34 -RST_MHX, 35 -CTS_MHX, 36 -RTS_MHX, 37 -DSR_MHX, 38 -DTR_MHX, 39 TXD_MHX, 40 RXD_MHX, 41 SDA_SYS, 42 VBACKUP, 43 SCL_SYS, 44 RSVD0, 45 RSVD1, 46 RSVD2, 47 USER0, 48 USER1, 49 USER2, 50 USER3, 51 USER4, 52 USER5

## CubesatBus-H1 TSW-126-17-G-D - Bottom
designator H1, comment TSW-126-17-G-D
Header PC/104 52-pin; System: Connector; Supplier 1: Digi-Key; Supplier Part Number 1: SAM1060-26-ND; Supplier 2: Newark; Supplier Part Number 2: 12P2879
footprint TSW-126-17-G-D - BOTTOM (TSW-126-17-G-D Samtech 52-pin connector)
pins: 1 IO.23, 2 IO.22, 3 IO.21, 4 IO.20, 5 IO.19, 6 IO.18, 7 IO.17, 8 IO.16, 9 IO.15, 10 IO.14, 11 IO.13, 12 IO.12, 13 IO.11, 14 IO.10, 15 IO.9, 16 IO.8, 17 IO.7, 18 IO.6, 19 IO.5, 20 IO.4, 21 IO.3, 22 IO.2, 23 IO.1, 24 IO.0, 25 -FAULT, 26 VREF0, 27 SENSE, 28 VREF1, 29 -RESET, 30 VREF2, 31 OFF_VCC, 32 +5V_USB, 33 PWR_MHX, 34 -RST_MHX, 35 -CTS_MHX, 36 -RTS_MHX, 37 -DSR_MHX, 38 -DTR_MHX, 39 TXD_MHX, 40 RXD_MHX, 41 SDA_SYS, 42 VBACKUP, 43 SCL_SYS, 44 RSVD0, 45 RSVD1, 46 RSVD2, 47 USER0, 48 USER1, 49 USER2, 50 USER3, 51 USER4, 52 USER5

## CubesatBus-H2 ESQ-110-37-G-D
designator H2, comment ESQ-110-37-G-D
Header PC/104 20-pin; System: Connector; Supplier 1: Digi-Key; Supplier Part Number 1: ESQ-110-37-G-D-ND; Supplier 2: Newark; Supplier Part Number 2: 91P9697
footprint ESQ-110-37-G-D 33-52 (ESQ-126-37-G-D Samtech 52-pin connector)
pins: 33 S0, 34 S0, 35 S1, 36 S1, 37 S2, 38 S2, 39 S3, 40 S3, 41 S4, 42 S4, 43 S5, 44 S5, 45 VBATT, 46 VBATT, 47 USER6, 48 USER7, 49 USER8, 50 USER9, 51 USER10, 52 USER11

## CubesatBus-H2 ESQ-126-37-G-D
designator H2, comment ESQ-126-37-G-D
Header PC/104 52-pin; System: Connector; Supplier 1: Digi-Key; Supplier Part Number 1: SAM9323-ND; Supplier 2: Newark; Supplier Part Number 2: 92P1369
footprint ESQ-126-37-G-D (ESQ-126-37-G-D Samtech 52-pin connector)
pins: 1 IO.47, 2 IO.46, 3 IO.45, 4 IO.44, 5 IO.43, 6 IO.42, 7 IO.41, 8 IO.40, 9 IO.39, 10 IO.38, 11 IO.37, 12 IO.36, 13 IO.35, 14 IO.34, 15 IO.33, 16 IO.32, 17 IO.31, 18 IO.30, 19 IO.29, 20 IO.28, 21 IO.27, 22 IO.26, 23 IO.25, 24 IO.24, 25 +5V_SYS, 26 +5V_SYS, 27 VCC_SYS, 28 VCC_SYS, 29 DGND, 30 DGND, 31 AGND, 32 DGND, 33 S0, 34 S0, 35 S1, 36 S1, 37 S2, 38 S2, 39 S3, 40 S3, 41 S4, 42 S4, 43 S5, 44 S5, 45 VBATT, 46 VBATT, 47 USER6, 48 USER7, 49 USER8, 50 USER9, 51 USER10, 52 USER11

## CubesatBus-H2 ESQ-126-37-G-D - Bottom
designator H2, comment ESQ-126-37-G-D
Header PC/104 52-pin; System: Connector; Supplier 1: Digi-Key; Supplier Part Number 1: SAM9323-ND; Supplier 2: Newark; Supplier Part Number 2: 92P1369
footprint ESQ-126-37-G-D - bottom (ESQ-126-37-G-D Samtech 52-pin connector)
pins: 1 IO.47, 2 IO.46, 3 IO.45, 4 IO.44, 5 IO.43, 6 IO.42, 7 IO.41, 8 IO.40, 9 IO.39, 10 IO.38, 11 IO.37, 12 IO.36, 13 IO.35, 14 IO.34, 15 IO.33, 16 IO.32, 17 IO.31, 18 IO.30, 19 IO.29, 20 IO.28, 21 IO.27, 22 IO.26, 23 IO.25, 24 IO.24, 25 +5V_SYS, 26 +5V_SYS, 27 VCC_SYS, 28 VCC_SYS, 29 DGND, 30 DGND, 31 AGND, 32 DGND, 33 S0, 34 S0, 35 S1, 36 S1, 37 S2, 38 S2, 39 S3, 40 S3, 41 S4, 42 S4, 43 S5, 44 S5, 45 VBATT, 46 VBATT, 47 USER6, 48 USER7, 49 USER8, 50 USER9, 51 USER10, 52 USER11

## CubesatBus-H2 ESQ-126-39-G-D
designator H2, comment ESQ-126-39-G-D
Header PC/104 52-pin; System: Connector; Supplier 1: Digi-Key; Supplier Part Number 1: SAM10462-ND; Supplier 2: Newark; Supplier Part Number 2: 92P1376
footprint ESQ-126-39-G-D (ESQ-126-39-G-D Samtech 52-pin connector)
pins: 1 IO.47, 2 IO.46, 3 IO.45, 4 IO.44, 5 IO.43, 6 IO.42, 7 IO.41, 8 IO.40, 9 IO.39, 10 IO.38, 11 IO.37, 12 IO.36, 13 IO.35, 14 IO.34, 15 IO.33, 16 IO.32, 17 IO.31, 18 IO.30, 19 IO.29, 20 IO.28, 21 IO.27, 22 IO.26, 23 IO.25, 24 IO.24, 25 +5V_SYS, 26 +5V_SYS, 27 VCC_SYS, 28 VCC_SYS, 29 DGND, 30 DGND, 31 AGND, 32 DGND, 33 S0, 34 S0, 35 S1, 36 S1, 37 S2, 38 S2, 39 S3, 40 S3, 41 S4, 42 S4, 43 S5, 44 S5, 45 VBATT, 46 VBATT, 47 USER6, 48 USER7, 49 USER8, 50 USER9, 51 USER10, 52 USER11

## CubesatBus-H2 HLE-126-02-L-DV-PE
designator H2, comment HLE-126-02-L-DV-PE
Header PC/104 52-pin; System: Connector; Supplier 1: Digi-Key; Supplier Part Number 1: HLE-126-02-L-DV-PE-ND; Supplier 2: Newark; Supplier Part Number 2: 84T4155
footprint HLE-126-02-L-DV-PE
pins: 1 IO.47, 2 IO.46, 3 IO.45, 4 IO.44, 5 IO.43, 6 IO.42, 7 IO.41, 8 IO.40, 9 IO.39, 10 IO.38, 11 IO.37, 12 IO.36, 13 IO.35, 14 IO.34, 15 IO.33, 16 IO.32, 17 IO.31, 18 IO.30, 19 IO.29, 20 IO.28, 21 IO.27, 22 IO.26, 23 IO.25, 24 IO.24, 25 +5V_SYS, 26 +5V_SYS, 27 VCC_SYS, 28 VCC_SYS, 29 DGND, 30 DGND, 31 AGND, 32 DGND, 33 S0, 34 S0, 35 S1, 36 S1, 37 S2, 38 S2, 39 S3, 40 S3, 41 S4, 42 S4, 43 S5, 44 S5, 45 VBATT, 46 VBATT, 47 USER6, 48 USER7, 49 USER8, 50 USER9, 51 USER10, 52 USER11

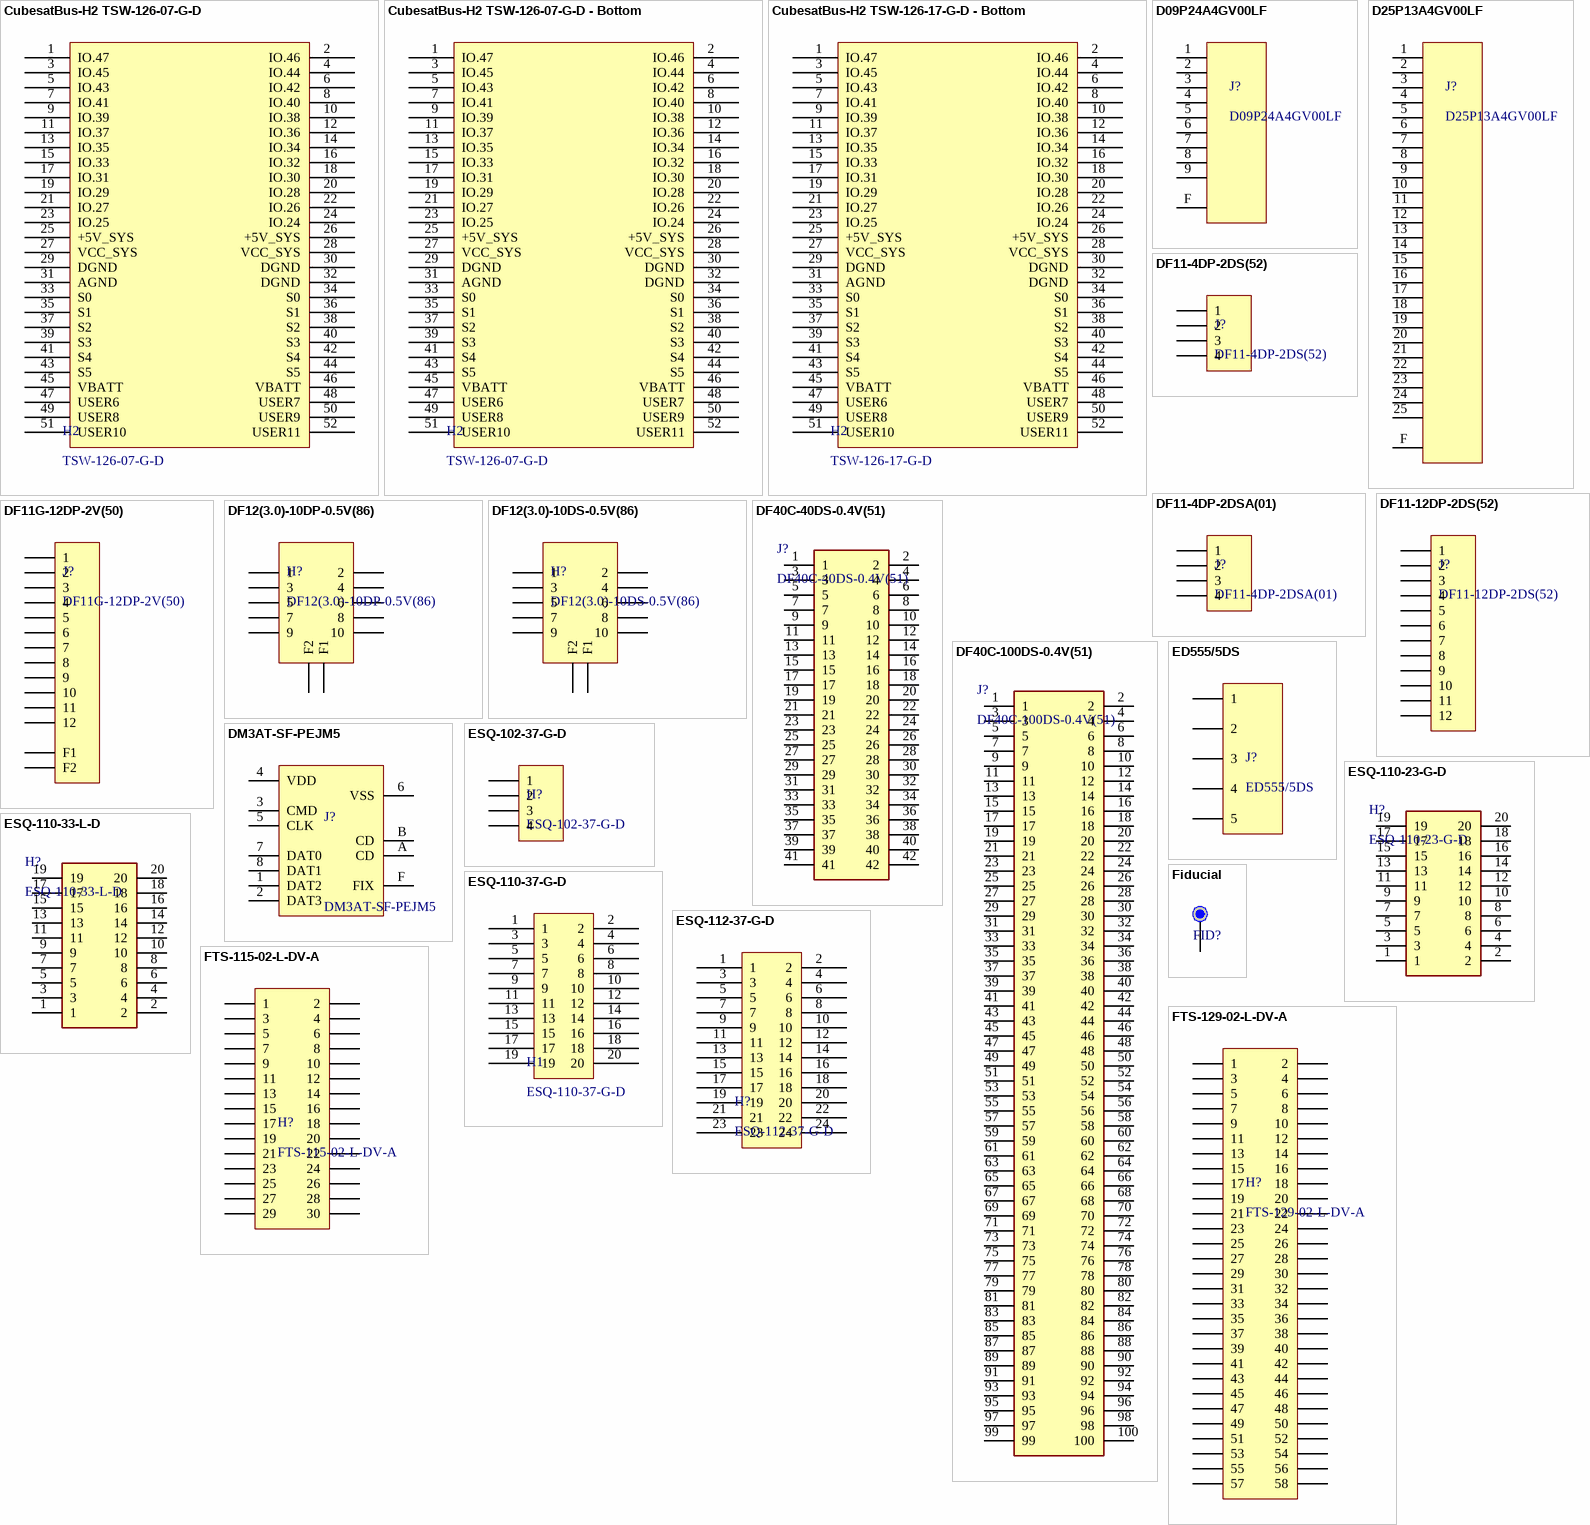
[diagram p3: symbols CubesatBus-H2 TSW-126-07-G-D to FTS-129-02-L-DV-A]

## CubesatBus-H2 TSW-126-07-G-D
designator H2, comment TSW-126-07-G-D
Header PC/104 52-pin; System: Connector; Supplier 1: Digi-Key; Supplier Part Number 1: SAM1028-26-ND; Supplier 2: Digi-Key; Supplier 3: Newark; Supplier Part Number 2: HTSW-126-07-G-D-ND; Supplier Part Number 3: 12P2847
footprint TSW-126-07-G-D (TSW-126-07-G-D Samtech 52-pin connector)
pins: 1 IO.47, 2 IO.46, 3 IO.45, 4 IO.44, 5 IO.43, 6 IO.42, 7 IO.41, 8 IO.40, 9 IO.39, 10 IO.38, 11 IO.37, 12 IO.36, 13 IO.35, 14 IO.34, 15 IO.33, 16 IO.32, 17 IO.31, 18 IO.30, 19 IO.29, 20 IO.28, 21 IO.27, 22 IO.26, 23 IO.25, 24 IO.24, 25 +5V_SYS, 26 +5V_SYS, 27 VCC_SYS, 28 VCC_SYS, 29 DGND, 30 DGND, 31 AGND, 32 DGND, 33 S0, 34 S0, 35 S1, 36 S1, 37 S2, 38 S2, 39 S3, 40 S3, 41 S4, 42 S4, 43 S5, 44 S5, 45 VBATT, 46 VBATT, 47 USER6, 48 USER7, 49 USER8, 50 USER9, 51 USER10, 52 USER11

## CubesatBus-H2 TSW-126-07-G-D - Bottom
designator H2, comment TSW-126-07-G-D
Header PC/104 52-pin; System: Connector; Supplier 1: Digi-Key; Supplier Part Number 1: SAM1028-26-ND; Supplier 2: Digi-Key; Supplier 3: Newark; Supplier Part Number 2: HTSW-126-07-G-D-ND; Supplier Part Number 3: 12P2847
footprint TSW-126-07-G-D - BOTTOM (TSW-126-07-G-D Samtech 52-pin connector)
pins: 1 IO.47, 2 IO.46, 3 IO.45, 4 IO.44, 5 IO.43, 6 IO.42, 7 IO.41, 8 IO.40, 9 IO.39, 10 IO.38, 11 IO.37, 12 IO.36, 13 IO.35, 14 IO.34, 15 IO.33, 16 IO.32, 17 IO.31, 18 IO.30, 19 IO.29, 20 IO.28, 21 IO.27, 22 IO.26, 23 IO.25, 24 IO.24, 25 +5V_SYS, 26 +5V_SYS, 27 VCC_SYS, 28 VCC_SYS, 29 DGND, 30 DGND, 31 AGND, 32 DGND, 33 S0, 34 S0, 35 S1, 36 S1, 37 S2, 38 S2, 39 S3, 40 S3, 41 S4, 42 S4, 43 S5, 44 S5, 45 VBATT, 46 VBATT, 47 USER6, 48 USER7, 49 USER8, 50 USER9, 51 USER10, 52 USER11

## CubesatBus-H2 TSW-126-17-G-D - Bottom
designator H2, comment TSW-126-17-G-D
Header PC/104 52-pin; System: Connector; Supplier 1: Digi-Key; Supplier Part Number 1: SAM1060-26-ND; Supplier 2: Newark; Supplier Part Number 2: 12P2879
footprint TSW-126-17-G-D - BOTTOM (TSW-126-17-G-D Samtech 52-pin connector)
pins: 1 IO.47, 2 IO.46, 3 IO.45, 4 IO.44, 5 IO.43, 6 IO.42, 7 IO.41, 8 IO.40, 9 IO.39, 10 IO.38, 11 IO.37, 12 IO.36, 13 IO.35, 14 IO.34, 15 IO.33, 16 IO.32, 17 IO.31, 18 IO.30, 19 IO.29, 20 IO.28, 21 IO.27, 22 IO.26, 23 IO.25, 24 IO.24, 25 +5V_SYS, 26 +5V_SYS, 27 VCC_SYS, 28 VCC_SYS, 29 DGND, 30 DGND, 31 AGND, 32 DGND, 33 S0, 34 S0, 35 S1, 36 S1, 37 S2, 38 S2, 39 S3, 40 S3, 41 S4, 42 S4, 43 S5, 44 S5, 45 VBATT, 46 VBATT, 47 USER6, 48 USER7, 49 USER8, 50 USER9, 51 USER10, 52 USER11

## D09P24A4GV00LF
designator J?
Header DB9 TH with Jack Screws; System: Connector; Supplier 1: Digi-Key; Supplier 2: Digi-Key; Supplier Part Number 1: 609-1479-ND; Supplier Part Number 2: 609-5184-ND
footprint D09P24A4GV00LF
pins: 1, 2, 3 1, 4 1, 5 1, 6, 7, 8, 9, F

## D25P13A4GV00LF
designator J?
Header DB25 TH RA; System: Connector; Supplier 1: Digi-Key; Supplier 2: Mouser; Supplier Part Number 1: 609-1501-ND; Supplier Part Number 2: 649-D25P13A4GV00LF
footprint D-Sub-25
pins: 1, 2, 3, 4, 5, 6, 7, 8, 9, 10, 11, 12, 13, 14, 15, 16, 17, 18, 19, 20, 21, 22, 23, 24, 25, F

## DF11-4DP-2DS(52)
designator J?
Header DF11-RA-TH 4-Pin; System: Connector; Supplier 1: Digi-Key; Supplier Part Number 1: H2865-ND; Supplier 2: Mouser; Supplier Part Number 2: 798-DF11-4DP-2DS52
footprint DF11-4-RA
pins: 1, 2, 3, 4

## DF11-4DP-2DSA(01)
designator J?
Header DF11-TH 4-Pin; System: Connector; Supplier 1: Digi-Key; Supplier Part Number 1: H2850-ND; Supplier 2: Mouser; Supplier Part Number 2: 798-DF11-4DP-2DSA01
footprint DF11-4-TH
pins: 1, 2, 3, 4

## DF11-12DP-2DS(52)
designator J?
Header DF11-RA-TH 12-Pin; System: Connector; Supplier 1: Digi-Key; Supplier 2: Farnell; Supplier 3: Newark; Supplier Part Number 1: H2869-ND; Supplier Part Number 2: 2724887; Supplier Part Number 3: 13AC8440
footprint DF11-12-RA
pins: 1, 2, 3, 4, 5, 6, 7, 8, 9, 10, 11, 12

## DF11G-12DP-2V(50)
designator J?
Header DF11 12-Pin; System: Connector; Supplier 1: Digi-Key; Supplier 2: Mouser; Supplier Part Number 2: 798-DF11G-12DP-2V50; Supplier Part Number 1: H2901-ND
footprint DF11G-12DP-2V(50)
pins: 1, 2, 3, 4, 5, 6, 7, 8, 9, 10, 11, 12, F1, F2

## DF12(3.0)-10DP-0.5V(86)
designator H?
Header DF12 10-Pin Female; System: Connector; Supplier 1: Digi-Key; Supplier 2: Mouser; Supplier Part Number 1: H11699CT-ND; Supplier Part Number 2: 798-DF123010DP05V86
footprint DF12(3.0)-10DP-0.5V(86)
pins: 1, 2, 3, 4, 5, 6, 7, 8, 9, 10, F1, F2

## DF12(3.0)-10DS-0.5V(86)
designator H?
Header DF12 10-Pin Male; System: Connector; Supplier 1: Mouser; Supplier 2: Digi-Key; Supplier Part Number 1: 798-DF123010DS05V86; Supplier Part Number 2: H11700CT-ND
footprint DF12(3.0)-10DS-0.5V(86)
pins: 1, 2, 3, 4, 5, 6, 7, 8, 9, 10, F1, F2

## DF40C-40DS-0.4V(51)
designator J?
CONN RCPT 40POS SMD GOLD; Manufacturer_Name: Hirose; Datasheet Link: https://www.hirose.com/product/download/?distributor=digikey&type=2d&lang=en&num=DF40C-40DS-0.4V(51); Height: 1.65mm; Manufacturer_Part_Number: DF40C-40DS-0.4V(51); Mouser Part Number: 798-DF40C40DS0.4V51; Mouser Price/Stock: https://www.mouser.co.uk/ProductDetail/Hirose-Connector/DF40C-40DS-0.4V51?qs=eDUdFcBPps3TglLeCFrcgA%3D%3D; Arrow Part Number: DF40C-40DS-0.4V(51); Arrow Price/Stock: https://www.arrow.com/en/products/df40c-40ds-0.4v-51/hirose-electric; Supplier 1: Digi-Key; Supplier 2: Mouser; Supplier Part Number 1: H11625CT-ND; Supplier Part Number 2: 798-DF40C40DS0.4V51
footprint DF40C40DS04V51 42 pins
footprint DF40C40DS04V51
pins: 1, 2, 3, 4, 5, 6, 7, 8, 9, 10, 11, 12, 13, 14, 15, 16, 17, 18, 19, 20, 21, 22, 23, 24, 25, 26, 27, 28, 29, 30, 31, 32, 33, 34, 35, 36, 37, 38, 39, 40, 41, 42

## DF40C-100DS-0.4V(51)
designator J?
CONN RCPT 100POS SMD GOLD; Manufacturer_Name: Hirose; Datasheet Link: https://datasheet.datasheetarchive.com/originals/distributors/SFDatasheet-7/sf-000141247.pdf; Manufacturer_Part_Number: DF40C-100DS-0.4V(51); Mouser Part Number: 798-DF40C100DS0.4V51; Mouser Price/Stock: https://www.mouser.co.uk/ProductDetail/Hirose-Connector/DF40C-100DS-0.4V51?qs=eDUdFcBPps2MEwbnuPvZzQ%3D%3D; Arrow Part Number: DF40C-100DS-0.4V(51); Arrow Price/Stock: https://www.arrow.com/en/products/df40c-100ds-0.4v-51/hirose-electric; Supplier 1: Mouser; Supplier 2: Digi-Key; Supplier Part Number 1: 798-DF40C30DP0.4V51; Supplier Part Number 2: H11622CT-ND
footprint DF40C100DS04V51
pins: 1, 2, 3, 4, 5, 6, 7, 8, 9, 10, 11, 12, 13, 14, 15, 16, 17, 18, 19, 20, 21, 22, 23, 24, 25, 26, 27, 28, 29, 30, 31, 32, 33, 34, 35, 36, 37, 38, 39, 40, 41, 42, 43, 44, 45, 46, 47, 48, 49, 50, 51, 52, 53, 54, 55, 56, 57, 58, 59, 60, 61, 62, 63, 64, 65, 66, 67, 68, 69, 70, 71, 72, 73, 74, 75, 76, 77, 78, 79, 80, 81, 82, 83, 84, 85, 86, 87, 88, 89, 90, 91, 92, 93, 94, 95, 96, 97, 98, 99, 100

## DM3AT-SF-PEJM5
designator J?
Receptacle  Micro SD - Push-Push; Manufacturer: Hirose; Manufacturer Part Number: DM3AT-SF-PEJM5; Supplier 1: Digi-Key; Supplier Part Number 1: HR1964CT-ND; Supplier 2: Mouser; Supplier Part Number 2: 798-DM3AT-SF-PEJM5
footprint HIROSE DM3AT
pins: 1 DAT2, 2 DAT3, 3 CMD, 4 VDD, 5 CLK, 6 VSS, 7 DAT0, 8 DAT1, A CD, B CD, F FIX

## ED555/5DS
designator J?
Header Screw terminal 5 pins; Supplier 1: Digi-Key; Supplier Part Number 1: ED1517-ND; Supplier 2: Newark; Supplier Part Number 2: 85X2493
footprint ED555/5DS
pins: 1, 2, 3, 4, 5

## ESQ-102-37-G-D
designator H?
Header 4 Pin ESQ; System: Connector; Supplier 1: Digi-Key; Supplier Part Number 1: ESQ-102-37-G-D-ND; Supplier 2: Newark; Supplier Part Number 2: 91P8641
footprint ESQ-102-37-G-D
pins: 1, 2, 3, 4

## ESQ-110-23-G-D
designator H?
Header 10x2 pin; Manufacturer_Name: SAMTEC; Manufacturer_Part_Number: ESQ-110-23-L-D; Datasheet Link: http://suddendocs.samtec.com/prints/esq-1xx-xx-x-x-xxx-xx-x-xx-mkt.pdf; Supplier 1: Digi-Key; Supplier Part Number 1: SAM15578-ND
footprint ESQ-110-23-G-D (ESQ-126-37-G-D Samtech 52-pin connector)
footprint ESQ-110-23-G-D - FLIPPED (ESQ-126-37-G-D Samtech 52-pin connector)
pins: 1, 2, 3, 4, 5, 6, 7, 8, 9, 10, 11, 12, 13, 14, 15, 16, 17, 18, 19, 20

## ESQ-110-33-L-D
designator H?
Header 10x2 Pin; Manufacturer_Name: SAMTEC; Manufacturer_Part_Number: SSW-110-01-G-D; Datasheet Link: http://suddendocs.samtec.com/prints/ssw-1xx-xx-xxx-x-xx-xxx-xx-mkt.pdf; Mouser Part Number: 200-SSW11001GD; Mouser Price/Stock: https://www.mouser.co.uk/ProductDetail/Samtec/SSW-110-01-G-D?qs=H3VknL1Rk7SPuUvNV9ez4g%3D%3D; Arrow Part Number: SSW-110-01-G-D; Arrow Price/Stock: https://www.arrow.com/en/products/ssw-110-01-g-d/samtec; Supplier 1: Digi-Key; Supplier Part Number 1: ESQ-110-33-L-D-ND
footprint SSW-110-XX-YYY-D
pins: 1, 2, 3, 4, 5, 6, 7, 8, 9, 10, 11, 12, 13, 14, 15, 16, 17, 18, 19, 20

## ESQ-110-37-G-D
designator H1
Header PC/104 20-pin; System: Connector; Supplier 1: Digi-Key; Supplier Part Number 1: ESQ-110-37-G-D-ND; Supplier 2: Newark; Supplier Part Number 2: 91P9697
footprint ESQ-110-37-G-D (ESQ-126-37-G-D Samtech 52-pin connector)
footprint ESQ-110-37-G-D - flipped (ESQ-126-37-G-D Samtech 52-pin connector)
pins: 1, 2, 3, 4, 5, 6, 7, 8, 9, 10, 11, 12, 13, 14, 15, 16, 17, 18, 19, 20

## ESQ-112-37-G-D
designator H?
Header PC/104 24-pin; System: Connector; Supplier 1: Digi-Key; Supplier Part Number 1: ESQ-112-37-G-D-ND; Supplier 2: Digi-Key; Supplier Part Number 2: ESQ-112-37-S-D-ND
footprint ESQ-112-37-G-D (ESQ-126-37-G-D Samtech 52-pin connector)
footprint ESQ-112-37-G-D - flipped (ESQ-126-37-G-D Samtech 52-pin connector)
pins: 1, 2, 3, 4, 5, 6, 7, 8, 9, 10, 11, 12, 13, 14, 15, 16, 17, 18, 19, 20, 21, 22, 23, 24

## Fiducial
designator FID?  (value not drawn)  (no BOM)
Fiducial Mark
footprint Fiducial
footprint Fiducial - WITH PASTE
pins: 1

## FTS-115-02-L-DV-A
designator H?
Header 30 Pin FTS; System: Connector*; Supplier 1: Mouser; Supplier 2: Digi-Key; Supplier Part Number 1: 200-FTS11502LDVA; Supplier Part Number 2: FTS-115-02-L-DV-A-ND
footprint FTS-115-02-L-DV-A
pins: 1, 2, 3, 4, 5, 6, 7, 8, 9, 10, 11, 12, 13, 14, 15, 16, 17, 18, 19, 20, 21, 22, 23, 24, 25, 26, 27, 28, 29, 30

## FTS-129-02-L-DV-A
designator H?
Header 58 Pin FTS; System: Connector; Supplier 1: Digi-Key; Supplier Part Number 1: FTS-129-02-L-DV-A-ND
footprint FTS-129-02-L-DV-A
pins: 1, 2, 3, 4, 5, 6, 7, 8, 9, 10, 11, 12, 13, 14, 15, 16, 17, 18, 19, 20, 21, 22, 23, 24, 25, 26, 27, 28, 29, 30, 31, 32, 33, 34, 35, 36, 37, 38, 39, 40, 41, 42, 43, 44, 45, 46, 47, 48, 49, 50, 51, 52, 53, 54, 55, 56, 57, 58

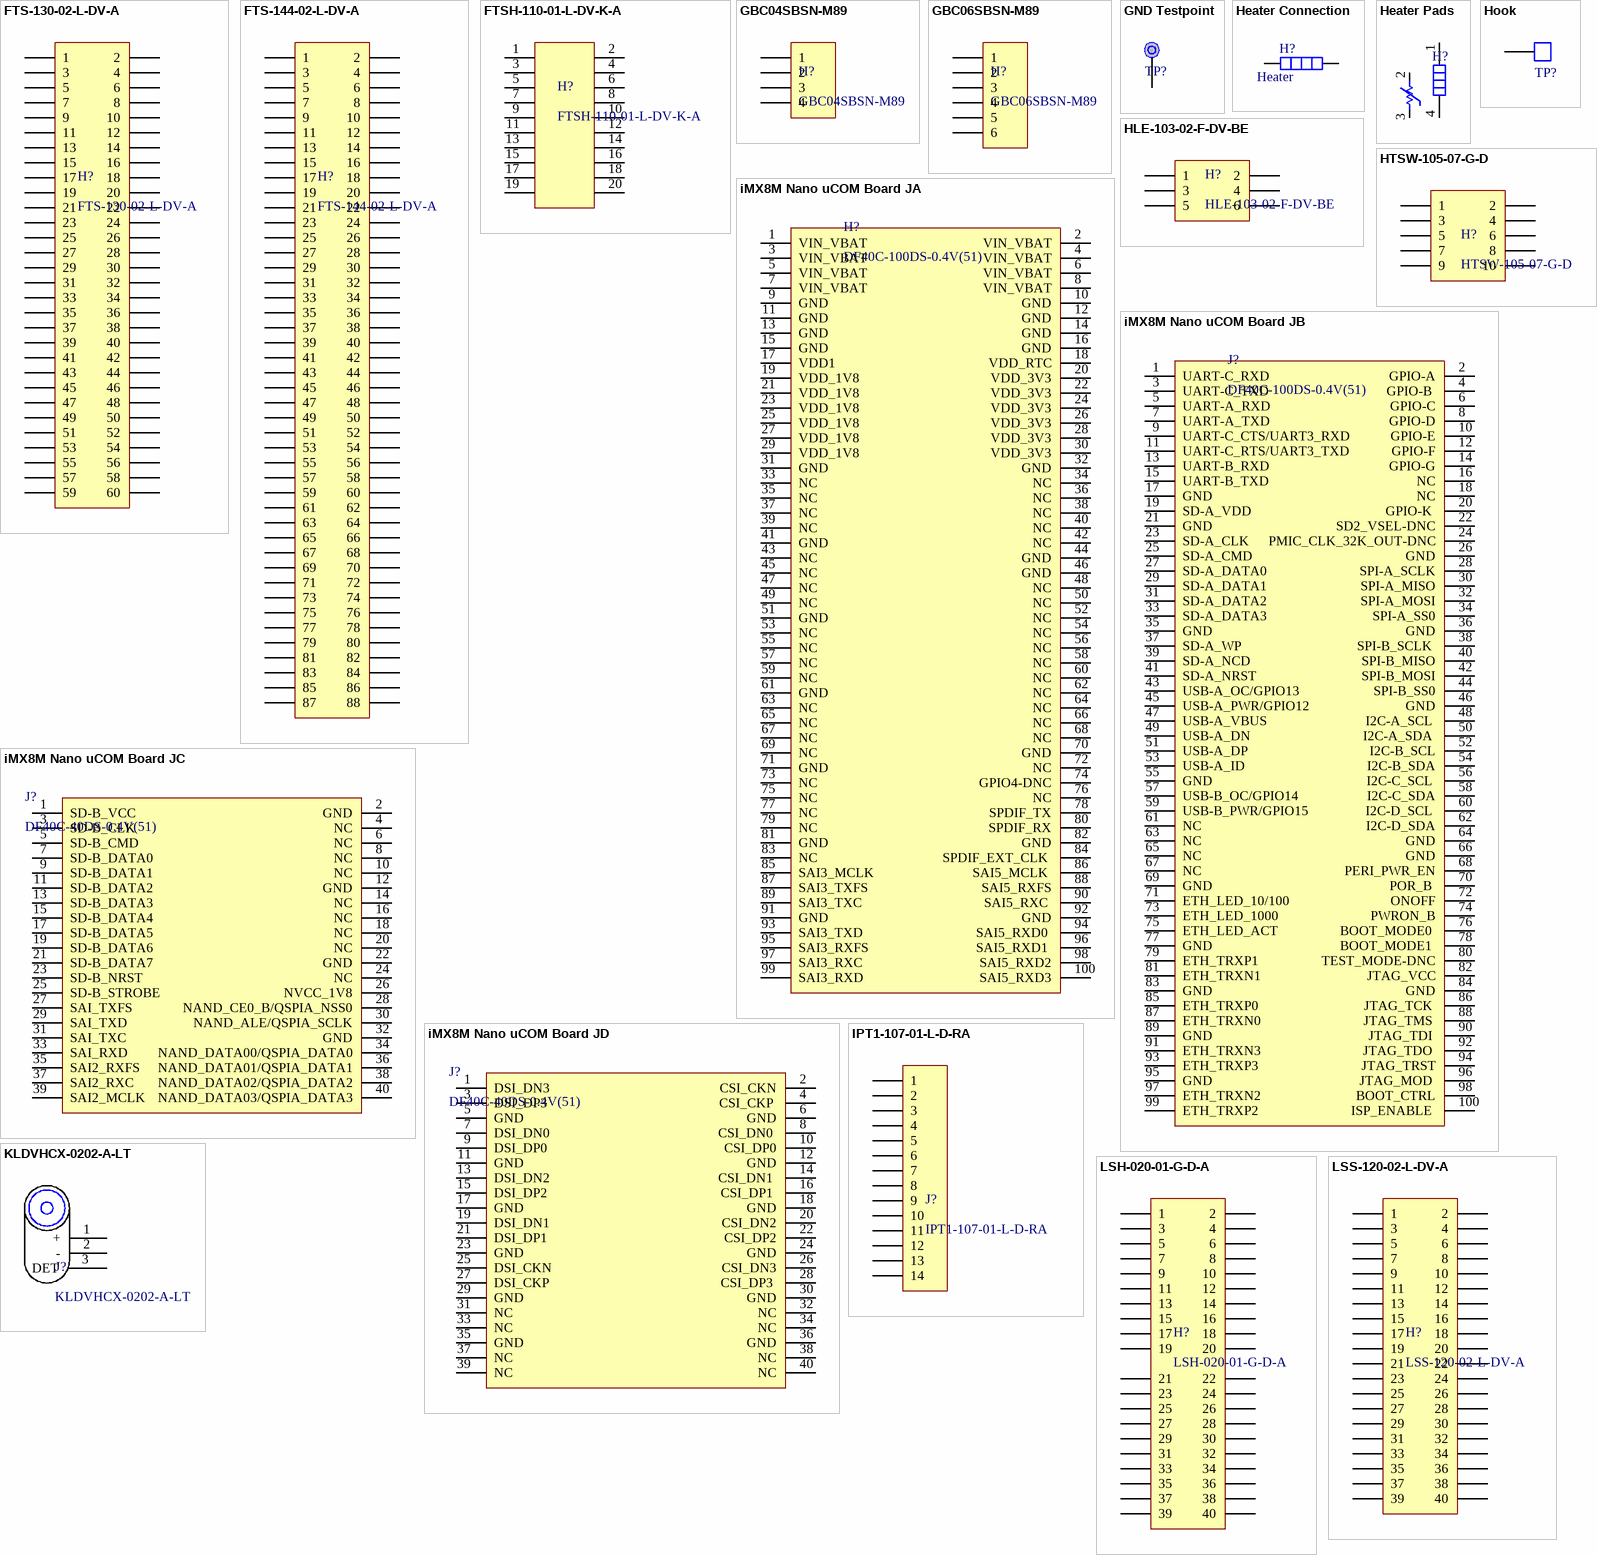
[diagram p4: symbols FTS-130-02-L-DV-A to LSS-120-02-L-DV-A]

## FTS-130-02-L-DV-A
designator H?
Header 60 Pin FTS; System: Connector; Supplier 1: Avnet; Supplier Part Number 1: FTS-130-02-L-DV-A; Supplier 2: Digi-Key; Supplier Part Number 2: FTS-130-02-L-DV-A-ND; Supplier 3: Newark; Supplier Part Number 3: 96AC0110; Supplier 4: Mouser; Supplier Part Number 4: 200-FTS13002LDVA; Supplier 5: Avnet; Supplier Part Number 5: FTS-130-02-L-DV; Supplier 6: Samtec; Supplier Part Number 6: FTS-130-02-L-DV
footprint FTS-130-02-L-DV-A
pins: 1, 2, 3, 4, 5, 6, 7, 8, 9, 10, 11, 12, 13, 14, 15, 16, 17, 18, 19, 20, 21, 22, 23, 24, 25, 26, 27, 28, 29, 30, 31, 32, 33, 34, 35, 36, 37, 38, 39, 40, 41, 42, 43, 44, 45, 46, 47, 48, 49, 50, 51, 52, 53, 54, 55, 56, 57, 58, 59, 60

## FTS-144-02-L-DV-A
designator H?
Header 88 Pin FTS; System: Connector; Supplier 1: Digi-Key; Supplier 2: Digi-Key; Supplier Part Number 1: FTS-144-02-FM-DV-ND; Supplier Part Number 2: FTS-144-02-S-DV-ND
footprint FTS-144-02-L-DV-A
pins: 1, 2, 3, 4, 5, 6, 7, 8, 9, 10, 11, 12, 13, 14, 15, 16, 17, 18, 19, 20, 21, 22, 23, 24, 25, 26, 27, 28, 29, 30, 31, 32, 33, 34, 35, 36, 37, 38, 39, 40, 41, 42, 43, 44, 45, 46, 47, 48, 49, 50, 51, 52, 53, 54, 55, 56, 57, 58, 59, 60, 61, 62, 63, 64, 65, 66, 67, 68, 69, 70, 71, 72, 73, 74, 75, 76, 77, 78, 79, 80, 81, 82, 83, 84, 85, 86, 87, 88

## FTSH-110-01-L-DV-K-A
designator H?
Header 10x2 50mil SMD; System: Connector; Supplier 1: Digi-Key; Supplier 2: Digi-Key; Supplier 3: Digi-Key; Supplier Part Number 1: SAM11271-ND; Supplier Part Number 2: SAM13176CT-ND; Supplier Part Number 3: SAM11270-ND
footprint FTSH-110-01-L-DV-K-A
pins: 1, 2, 3, 4, 5, 6, 7, 8, 9, 10, 11 1, 12, 13, 14, 15, 16, 17, 18, 19, 20

## GBC04SBSN-M89
designator H?
Header 4x1 RA SMT; System: Connector; Supplier 1: Digi-Key; Supplier Part Number 1: S1133E-04-ND; Supplier 2: Digi-Key; Supplier Part Number 2: SAM12999-ND
footprint HDR 4pin RA SMT
footprint HDR 4pin RA SMT - SM Defined
pins: 1, 2, 3, 4

## GBC06SBSN-M89
designator H?
Header 6x1 RA SMT; System: Connector; Supplier 1: Digi-Key; Supplier Part Number 1: S1133E-06-ND
footprint HDR 6pin RA SMT
pins: 1, 2, 3, 4, 5, 6

## GND Testpoint
designator TP?  (value not drawn)  (no BOM)
Testpoint GND
footprint GND Testpoint
pins: 1

## Heater Connection
designator H?, comment Heater  (no BOM)
Heater Connection; System: Connector; Revision: Altium ETH 11-03.2008
footprint Heater Pads TH
pins: 1, 2
1 alternate drawing of the same symbol

## Heater Pads
designator H?, comment Heater + Thermistor  (value not drawn)  (no BOM)
System: Connector
footprint Heater Pads - smaller
footprint Heater Pads
footprint Heater Pads - LEFT
pins: 1, 2, 3, 4

## HLE-103-02-F-DV-BE
designator H?
Header 3x2 SMD pass-through; System: Connector; Supplier 1: Digi-Key; Supplier Part Number 1: HLE-103-02-S-DV-BE-ND; Supplier 2: Digi-Key; Supplier Part Number 2: SAM13984CT-ND
footprint HLE-103-02-F-DV-BE
pins: 1, 2, 3, 4, 5, 6

## Hook
designator TP?  (value not drawn)
Testpoint Hook; Manufacturer: Keystone Electronics; Manufacturer Part Number: 5016; Mass_g: 0.11; Supplier 1 Pricing: 0.60 (NZD); Supplier 1: Digi-Key; Supplier Part Number 1: 36-5016CT-ND; Supplier 2: Digi-Key; Supplier Part Number 2: 36-5018CT-ND
footprint Hook
pins: 1 Hook

## HTSW-105-07-G-D
designator H?
Header 5x2 TH; System: Connector; Supplier 1: Digi-Key; Supplier Part Number 1: SAM10538-ND; Supplier 2: Newark; Supplier 3: Digi-Key; Supplier Part Number 2: 12P1454; Supplier Part Number 3: SAM1028-05-ND
footprint 5x2 0.100" header
pins: 1, 2, 3, 4, 5, 6, 7, 8, 9, 10

## iMX8M Nano uCOM Board JA
designator H?, comment DF40C-100DS-0.4V(51)
CONN RCPT 100POS SMD GOLD; Manufacturer_Name: Hirose; Datasheet Link: https://datasheet.datasheetarchive.com/originals/distributors/SFDatasheet-7/sf-000141247.pdf; Manufacturer_Part_Number: DF40C-100DS-0.4V(51); Mouser Part Number: 798-DF40C100DS0.4V51; Mouser Price/Stock: https://www.mouser.co.uk/ProductDetail/Hirose-Connector/DF40C-100DS-0.4V51?qs=eDUdFcBPps2MEwbnuPvZzQ%3D%3D; Arrow Part Number: DF40C-100DS-0.4V(51); Arrow Price/Stock: https://www.arrow.com/en/products/df40c-100ds-0.4v-51/hirose-electric; Supplier 1: Mouser; Supplier 2: Digi-Key; Supplier Part Number 1: 798-DF40C30DP0.4V51; Supplier Part Number 2: H11622CT-ND
footprint DF40C100DS04V51
pins: 1 VIN_VBAT, 2 VIN_VBAT, 3 VIN_VBAT, 4 VIN_VBAT, 5 VIN_VBAT, 6 VIN_VBAT, 7 VIN_VBAT, 8 VIN_VBAT, 9 GND, 10 GND, 11 GND, 12 GND, 13 GND, 14 GND, 15 GND, 16 GND, 17 VDD1, 18 VDD_RTC, 19 VDD_1V8, 20 VDD_3V3, 21 VDD_1V8, 22 VDD_3V3, 23 VDD_1V8, 24 VDD_3V3, 25 VDD_1V8, 26 VDD_3V3, 27 VDD_1V8, 28 VDD_3V3, 29 VDD_1V8, 30 VDD_3V3, 31 GND, 32 GND, 33 NC, 34 NC, 35 NC, 36 NC, 37 NC, 38 NC, 39 NC, 40 NC, 41 GND, 42 NC, 43 NC, 44 GND, 45 NC, 46 GND, 47 NC, 48 NC, 49 NC, 50 NC, 51 GND, 52 NC, 53 NC, 54 NC, 55 NC, 56 NC, 57 NC, 58 NC, 59 NC, 60 NC, 61 GND, 62 NC, 63 NC, 64 NC, 65 NC, 66 NC, 67 NC, 68 NC, 69 NC, 70 GND, 71 GND, 72 NC, 73 NC, 74 GPIO4-DNC, 75 NC, 76 NC, 77 NC, 78 SPDIF_TX, 79 NC, 80 SPDIF_RX, 81 GND, 82 GND, 83 NC, 84 SPDIF_EXT_CLK , 85 SAI3_MCLK , 86 SAI5_MCLK , 87 SAI3_TXFS , 88 SAI5_RXFS, 89 SAI3_TXC, 90 SAI5_RXC , 91 GND, 92 GND, 93 SAI3_TXD , 94 SAI5_RXD0 , 95 SAI3_RXFS , 96 SAI5_RXD1 , 97 SAI3_RXC , 98 SAI5_RXD2, 99 SAI3_RXD , 100 SAI5_RXD3

## iMX8M Nano uCOM Board JB
designator J?, comment DF40C-100DS-0.4V(51)
CONN RCPT 100POS SMD GOLD; Manufacturer_Name: Hirose; Datasheet Link: https://datasheet.datasheetarchive.com/originals/distributors/SFDatasheet-7/sf-000141247.pdf; Manufacturer_Part_Number: DF40C-100DS-0.4V(51); Mouser Part Number: 798-DF40C100DS0.4V51; Mouser Price/Stock: https://www.mouser.co.uk/ProductDetail/Hirose-Connector/DF40C-100DS-0.4V51?qs=eDUdFcBPps2MEwbnuPvZzQ%3D%3D; Arrow Part Number: DF40C-100DS-0.4V(51); Arrow Price/Stock: https://www.arrow.com/en/products/df40c-100ds-0.4v-51/hirose-electric; Supplier 1: Mouser; Supplier 2: Digi-Key; Supplier Part Number 1: 798-DF40C30DP0.4V51; Supplier Part Number 2: H11622CT-ND
footprint DF40C100DS04V51
pins: 1 UART-C_RXD, 2 GPIO-A, 3 UART-C_TXD, 4 GPIO-B , 5 UART-A_RXD, 6 GPIO-C, 7 UART-A_TXD, 8 GPIO-D, 9 UART-C_CTS/UART3_RXD, 10 GPIO-E, 11 UART-C_RTS/UART3_TXD, 12 GPIO-F, 13 UART-B_RXD , 14 GPIO-G, 15 UART-B_TXD, 16 NC, 17 GND, 18 NC, 19 SD-A_VDD , 20 GPIO-K , 21 GND, 22 SD2_VSEL-DNC, 23 SD-A_CLK, 24 PMIC_CLK_32K_OUT-DNC, 25 SD-A_CMD, 26 GND, 27 SD-A_DATA0, 28 SPI-A_SCLK, 29 SD-A_DATA1, 30 SPI-A_MISO, 31 SD-A_DATA2, 32 SPI-A_MOSI, 33 SD-A_DATA3, 34 SPI-A_SS0, 35 GND, 36 GND, 37 SD-A_WP, 38 SPI-B_SCLK , 39 SD-A_NCD, 40 SPI-B_MISO, 41 SD-A_NRST, 42 SPI-B_MOSI, 43 USB-A_OC/GPIO13 , 44 SPI-B_SS0, 45 USB-A_PWR/GPIO12 , 46 GND, 47 USB-A_VBUS, 48 I2C-A_SCL , 49 USB-A_DN, 50 I2C-A_SDA , 51 USB-A_DP, 52 I2C-B_SCL, 53 USB-A_ID , 54 I2C-B_SDA, 55 GND, 56 I2C-C_SCL , 57 USB-B_OC/GPIO14, 58 I2C-C_SDA, 59 USB-B_PWR/GPIO15, 60 I2C-D_SCL , 61 NC, 62 I2C-D_SDA, 63 NC, 64 GND, 65 NC, 66 GND, 67 NC, 68 PERI_PWR_EN, 69 GND, 70 POR_B , 71 ETH_LED_10/100 , 72 ONOFF, 73 ETH_LED_1000 , 74 PWRON_B, 75 ETH_LED_ACT , 76 BOOT_MODE0 , 77 GND, 78 BOOT_MODE1 , 79 ETH_TRXP1, 80 TEST_MODE-DNC, 81 ETH_TRXN1 , 82 JTAG_VCC, 83 GND, 84 GND, 85 ETH_TRXP0, 86 JTAG_TCK , 87 ETH_TRXN0 , 88 JTAG_TMS , 89 GND, 90 JTAG_TDI , 91 ETH_TRXN3, 92 JTAG_TDO , 93 ETH_TRXP3 , 94 JTAG_TRST, 95 GND, 96 JTAG_MOD , 97 ETH_TRXN2, 98 BOOT_CTRL, 99 ETH_TRXP2 , 100 ISP_ENABLE 